# Altium schematic symbol library 研发中心原理图库文件.SchLib: 197 symbols
Pins are listed as number, name and electrical type; pins without a type are passive.

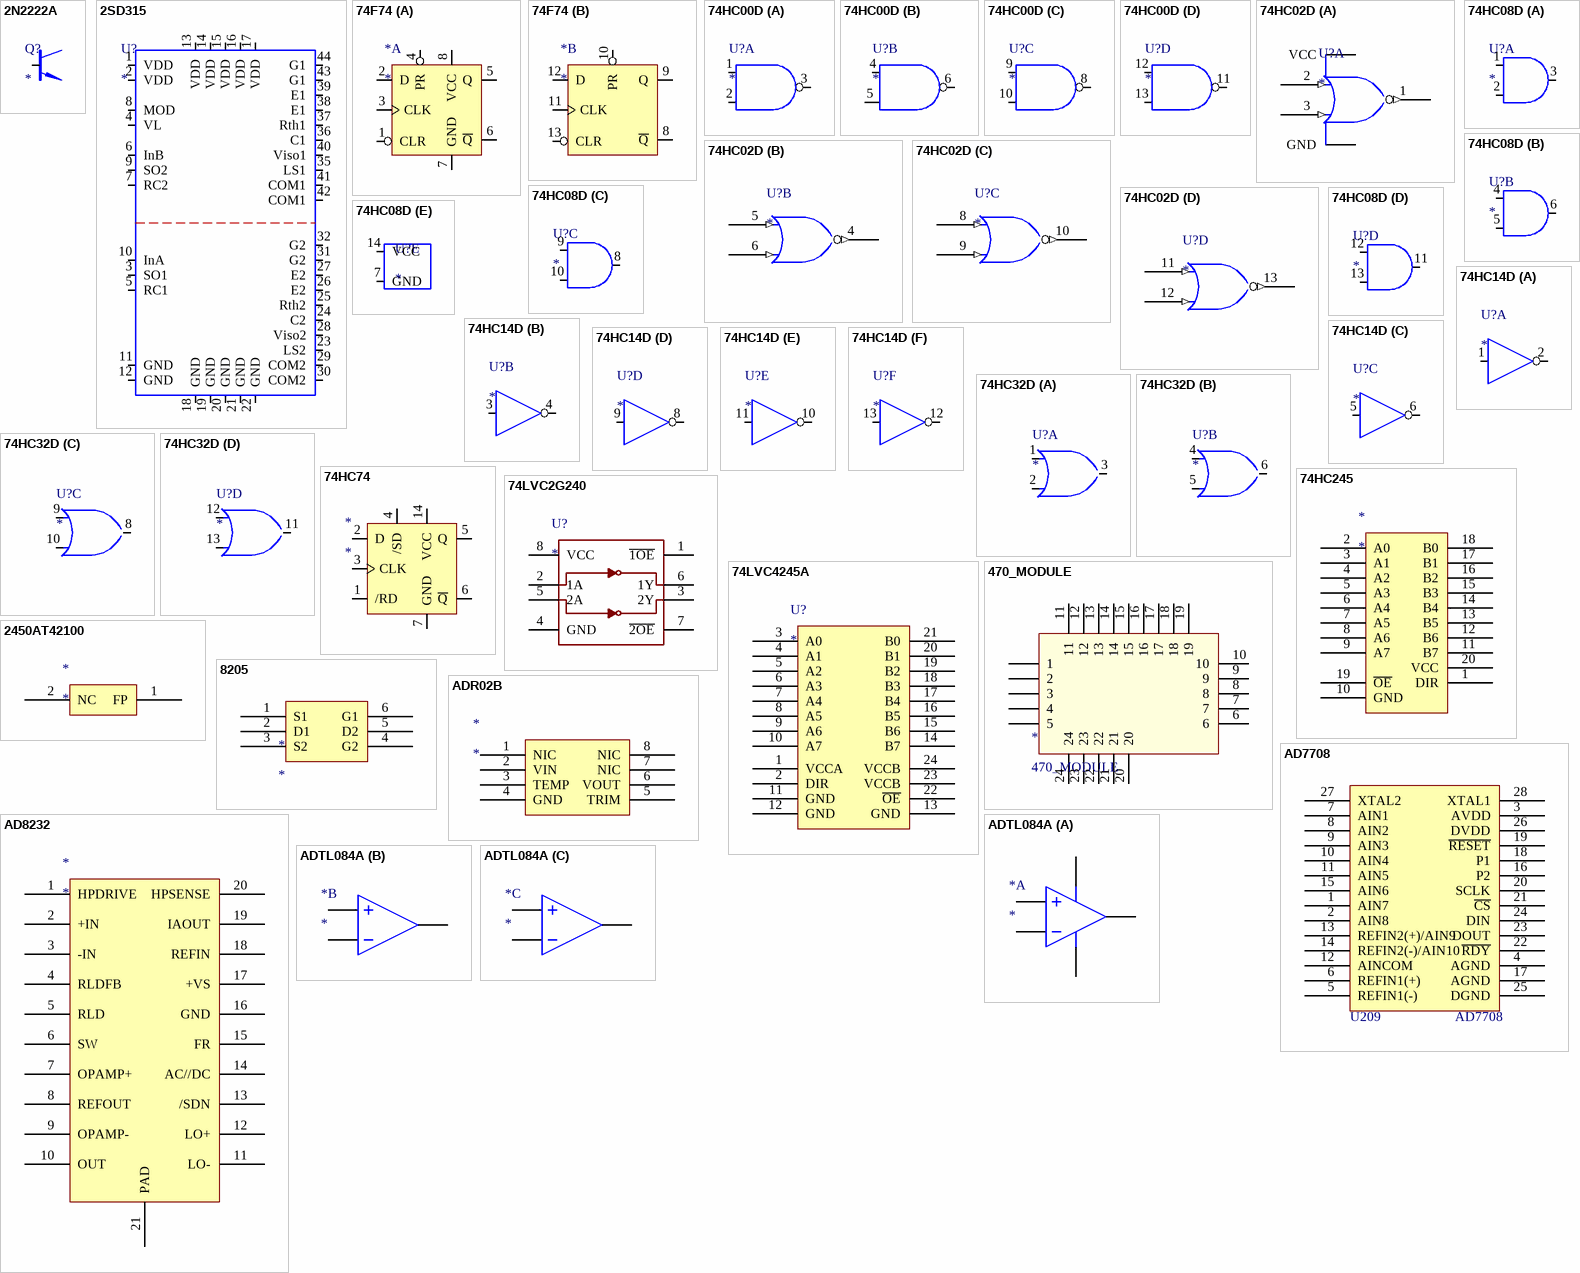
[diagram p0: symbols 2N2222A to ADTL084A]

## 2N2222A
designator Q?
footprint TO-92A
footprint SOT-23
pins: 1, 2, 3

## 2SD315
designator U?
footprint 2SD315
pins: 1 VDD, 2 VDD, 3 SO1, 4 VL, 5 RC1, 6 InB, 7 RC2, 8 MOD, 9 SO2, 10 InA, 11 GND, 12 GND, 13 VDD, 14 VDD, 15 VDD, 16 VDD, 17 VDD, 18 GND, 19 GND, 20 GND, 21 GND, 22 GND, 23 LS2, 24 C2, 25 Rth2, 26 E2, 27 E2, 28 Viso2, 29 COM2, 30 COM2, 31 G2, 32 G2, 35 LS1, 36 C1, 37 Rth1, 38 E1, 39 E1, 40 Viso1, 41 COM1, 42 COM1, 43 G1, 44 G1

## 74F74
designator *
footprint SO14
part A pins: 1 CLR, 2 D, 3 CLK, 4 PR, 5 Q, 6 ~{Q}, 7 GND, 8 VCC
part B pins: 8 ~{Q}, 9 Q, 10 PR, 11 CLK, 12 D, 13 CLR

## 74HC00D
designator U?
2-INPUT NAND GATE
footprint SO14
part A pins: 1 A, 2 B, 3 Y, 7 GND (power) hidden, 14 VCC (power) hidden
part B pins: 4 A, 5 B, 6 Y
part C pins: 8 Y, 9 A, 10 B
part D pins: 11 Y, 12 A, 13 B

## 74HC02D
designator U?
Quad 2-Input NOR Gate
footprint SO14
part A pins: 1 Y (out), 2 A (in), 3 B (in), 7 GND (power), 14 VCC (power)
part B pins: 4 Y (out), 5 A (in), 6 B (in)
part C pins: 8 A (in), 9 B (in), 10 Y (out)
part D pins: 11 A (in), 12 B (in), 13 Y (out)

## 74HC08D
designator U?
2-INPUT AND GATE
footprint SO14
part A pins: 1, 2, 3, 7 GND hidden, 14 VCC hidden
part B pins: 4, 5, 6
part C pins: 8, 9, 10
part D pins: 11, 12, 13
part E pins: 7 GND, 14 VCC

## 74HC14D
designator U?
HEX SCHMITT-TRIGGER INVERTERS
footprint SO14
part A pins: 1, 2, 7 GND (power) hidden, 14 VCC (power) hidden
part B pins: 3, 4
part C pins: 5, 6
part D pins: 8, 9
part E pins: 10, 11
part F pins: 12, 13

## 74HC32D
designator U?
footprint SO14
part A pins: 1 A, 2 B, 3 Y, 7 GND hidden, 14 VCC hidden
part B pins: 4 A, 5 B, 6 Y
part C pins: 8 Y, 9 A, 10 B
part D pins: 11 Y, 12 A, 13 B

## 74HC74
designator *
pins: 1 /RD, 2 D, 3 CLK, 4 /SD, 5 Q, 6 ~{Q}, 7 GND, 14 VCC

## 74HC245
designator *
pins: 1 DIR, 2 A0, 3 A1, 4 A2, 5 A3, 6 A4, 7 A5, 8 A6, 9 A7, 10 GND, 11 B7, 12 B6, 13 B5, 14 B4, 15 B3, 16 B2, 17 B1, 18 B0, 19 ~{OE}, 20 VCC

## 74LVC2G240
designator U?
pins: 1 ~{1OE}, 2 1A, 3 2Y, 4 GND (oe), 5 2A, 6 1Y, 7 ~{2OE}, 8 VCC (oe)

## 74LVC4245A
designator U?
pins: 1 VCCA, 2 DIR, 3 A0, 4 A1, 5 A2, 6 A3, 7 A4, 8 A5, 9 A6, 10 A7, 11 GND, 12 GND, 13 GND, 14 B7, 15 B6, 16 B5, 17 B4, 18 B3, 19 B2, 20 B1, 21 B0, 22 ~{OE}, 23 VCCB, 24 VCCB

## 470_MODULE
designator *
pins: 1, 2, 3, 4, 5, 6, 7, 8, 9, 10, 11, 12, 13, 14, 15, 16, 17, 18, 19, 20, 21, 22, 23, 24

## 2450AT42100
designator *
pins: 1 FP, 2 NC

## 8205
designator *
pins: 1 S1, 2 D1, 3 S2, 4 G2, 5 D2, 6 G1

## AD7708
designator U209
footprint TSSOP28
pins: 1 AIN7, 2 AIN8, 3 AVDD, 4 AGND, 5 REFIN1(-), 6 REFIN1(+), 7 AIN1, 8 AIN2, 9 AIN3, 10 AIN4, 11 AIN5, 12 AINCOM, 13 REFIN2(+)/AIN9, 14 REFIN2(-)/AIN10, 15 AIN6, 16 P2, 17 AGND, 18 P1, 19 ~{RESET}, 20 SCLK, 21 ~{CS}, 22 ~{RDY}, 23 DOUT, 24 DIN, 25 DGND, 26 DVDD, 27 XTAL2, 28 XTAL1

## AD8232
designator *
pins: 1 HPDRIVE, 2 +IN, 3 -IN, 4 RLDFB, 5 RLD, 6 SW, 7 OPAMP+, 8 REFOUT, 9 OPAMP-, 10 OUT, 11 LO-, 12 LO+, 13 /SDN, 14 AC//DC, 15 FR, 16 GND, 17 +VS, 18 REFIN, 19 IAOUT, 20 HPSENSE, 21 PAD

## ADR02B
designator *
pins: 1 NIC, 2 VIN, 3 TEMP, 4 GND, 5 TRIM, 6 VOUT, 7 NIC, 8 NIC

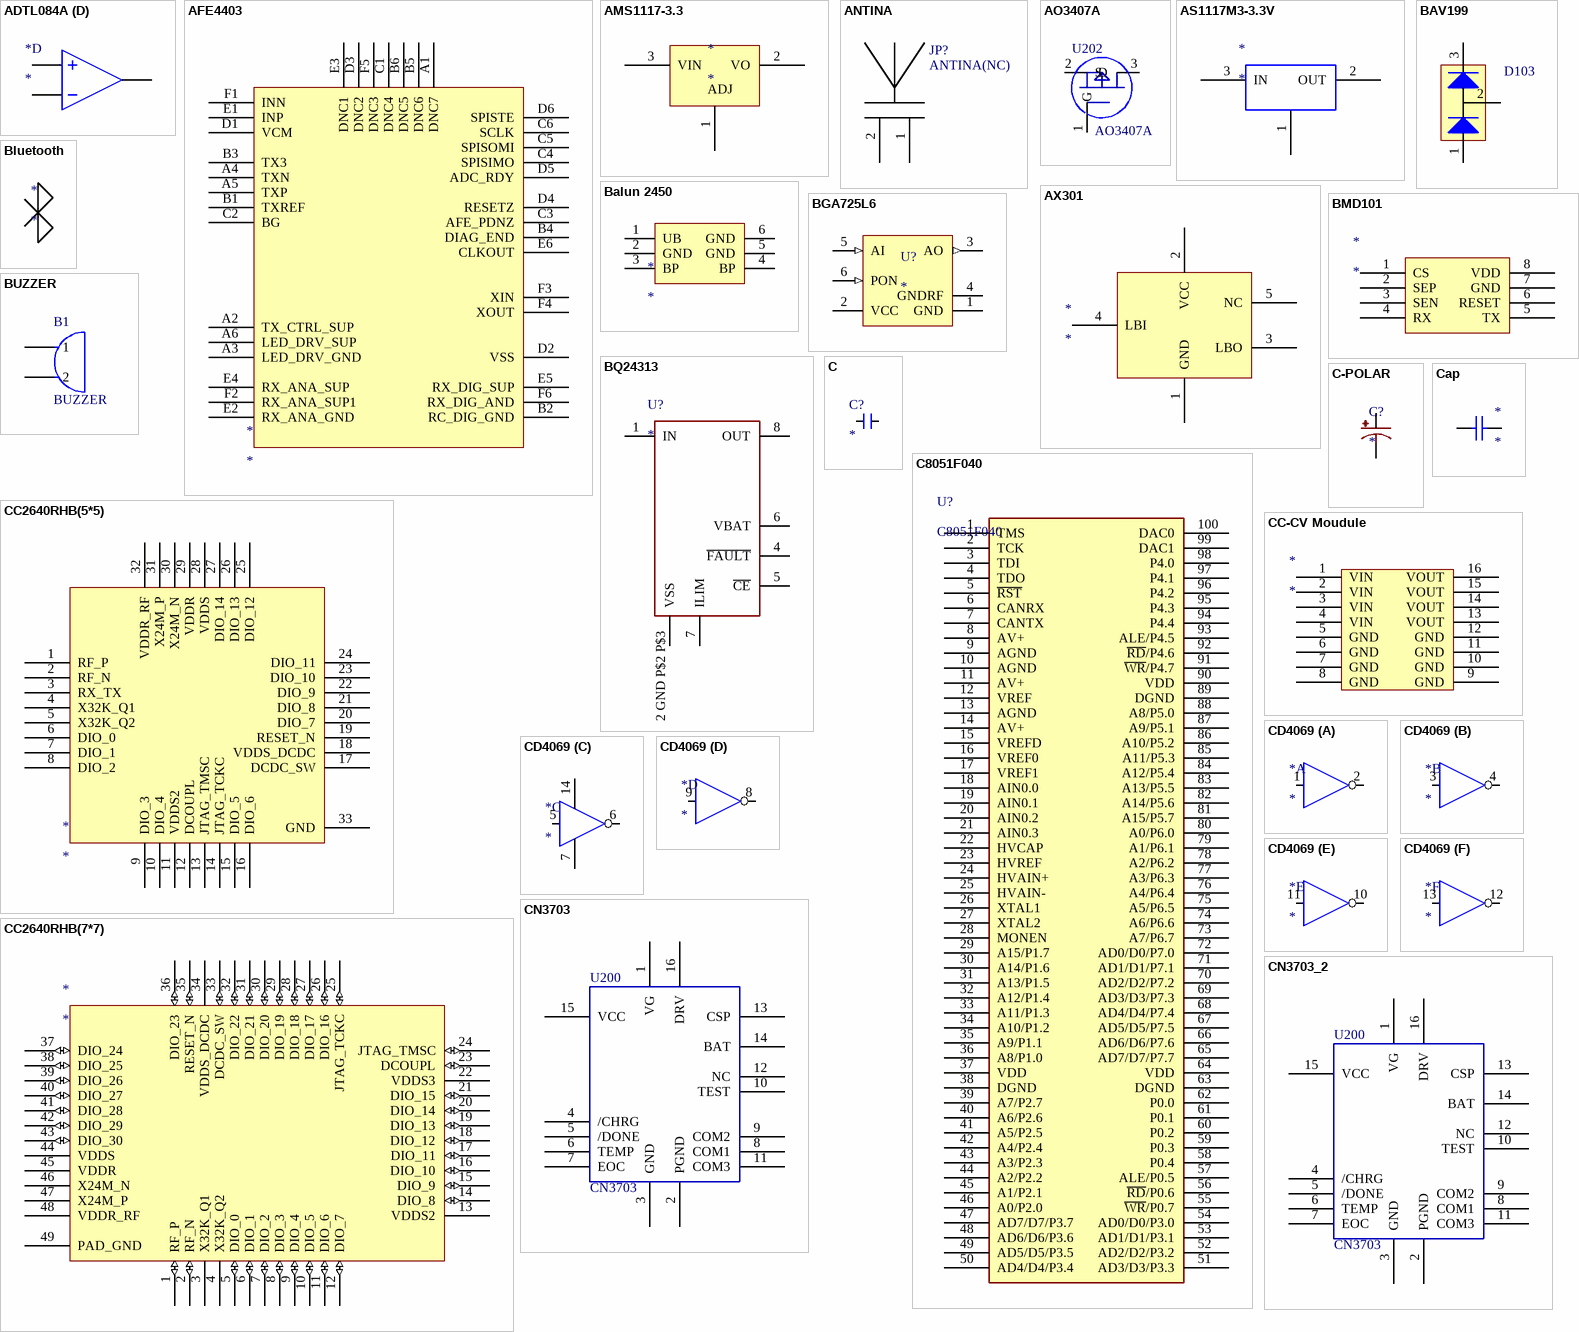
[diagram p1: symbols ADTL084A to CN3703_2]

## ADTL084A
designator *
part A pins: 1 OUT, 2 INA-, 3 INA+, 4 V+, 11 V-
part B pins: 5 INB+, 6 INB-, 7 OUTB
part C pins: 8 OUTC, 9 INC-, 10 INC+
part D pins: 12 IND+, 13 IND-, 14 OUTD

## AFE4403
designator *
pins: A1 DNC7, A2 TX_CTRL_SUP, A3 LED_DRV_GND, A4 TXN, A5 TXP, A6 LED_DRV_SUP, B1 TXREF, B2 RC_DIG_GND, B3 TX3, B4 DIAG_END, B5 DNC6, B6 DNC5, C1 DNC4, C2 BG, C3 AFE_PDNZ, C4 SPISIMO, C5 SPISOMI, C6 SCLK, D1 VCM, D2 VSS, D3 DNC2, D4 RESETZ, D5 ADC_RDY, D6 SPISTE, E1 INP, E2 RX_ANA_GND, E3 DNC1, E4 RX_ANA_SUP, E5 RX_DIG_SUP, E6 CLKOUT, F1 INN, F2 RX_ANA_SUP1, F3 XIN, F4 XOUT, F5 DNC3, F6 RX_DIG_AND

## AMS1117-3.3
designator *
footprint SOT223
pins: 1 GND/ADJ, 2 VO, 3 VIN
text: ADJ

## ANTINA
designator JP?, comment ANTINA(NC)
footprint ANTINA
pins: 1, 2

## AO3407A
designator U202
footprint sot-23
pins: 1 G, 2 S, 3 D

## AS1117M3-3.3V
designator *
5V-3.3V
footprint SOT223
pins: 1 COM, 2 OUT, 3 IN

## AX301
designator *
pins: 1 GND, 2 VCC, 3 LBO, 4 LBI, 5 NC

## Balun 2450
designator *
pins: 1 UB, 2 GND, 3 BP, 4 BP, 5 GND, 6 GND

## BAV199
designator D103  (value not drawn)
footprint SOT23-NPN
pins: 1, 2, 3

## BGA725L6
designator U?
pins: 1 GND (power) "General ground", 2 VCC (power) "DC supply", 3 AO (out) "LNA output", 4 GNDRF (power) "LNA RF ground", 5 AI (in) "LNA input", 6 PON (in) "Power on control"

## Bluetooth
designator *

## BMD101
designator *
pins: 1 CS, 2 SEP, 3 SEN, 4 RX, 5 TX, 6 RESET, 7 GND, 8 VDD

## BQ24313
designator U?
pins: 1 IN, 2 GND P$2 P$3 VSS, 4 ~{FAULT}, 5 ~{CE}, 6 VBAT, 7 ILIM, 8 OUT

## BUZZER
designator B1
footprint BEEP
pins: 1, 2

## C
designator C?
footprint 0805
footprint RAD0.2
pins: 1, 2

## C8051F040
designator U?
footprint TQ100
pins: 1 TMS, 2 TCK, 3 TDI, 4 TDO, 5 ~{RST}, 6 CANRX, 7 CANTX, 8 AV+, 9 AGND, 10 AGND, 11 AV+, 12 VREF, 13 AGND, 14 AV+, 15 VREFD, 16 VREF0, 17 VREF1, 18 AIN0.0, 19 AIN0.1, 20 AIN0.2, 21 AIN0.3, 22 HVCAP, 23 HVREF, 24 HVAIN+, 25 HVAIN-, 26 XTAL1, 27 XTAL2, 28 MONEN, 29 A15/P1.7, 30 A14/P1.6, 31 A13/P1.5, 32 A12/P1.4, 33 A11/P1.3, 34 A10/P1.2, 35 A9/P1.1, 36 A8/P1.0, 37 VDD, 38 DGND, 39 A7/P2.7, 40 A6/P2.6, 41 A5/P2.5, 42 A4/P2.4, 43 A3/P2.3, 44 A2/P2.2, 45 A1/P2.1, 46 A0/P2.0, 47 AD7/D7/P3.7, 48 AD6/D6/P3.6, 49 AD5/D5/P3.5, 50 AD4/D4/P3.4, 51 AD3/D3/P3.3, 52 AD2/D2/P3.2, 53 AD1/D1/P3.1, 54 AD0/D0/P3.0, 55 ~{WR}/P0.7, 56 ~{RD}/P0.6, 57 ALE/P0.5, 58 P0.4, 59 P0.3, 60 P0.2, 61 P0.1, 62 P0.0, 63 DGND, 64 VDD, 65 AD7/D7/P7.7, 66 AD6/D6/P7.6, 67 AD5/D5/P7.5, 68 AD4/D4/P7.4, 69 AD3/D3/P7.3, 70 AD2/D2/P7.2, 71 AD1/D1/P7.1, 72 AD0/D0/P7.0, 73 A7/P6.7, 74 A6/P6.6, 75 A5/P6.5, 76 A4/P6.4, 77 A3/P6.3, 78 A2/P6.2, 79 A1/P6.1, 80 A0/P6.0, 81 A15/P5.7, 82 A14/P5.6, 83 A13/P5.5, 84 A12/P5.4, 85 A11/P5.3, 86 A10/P5.2, 87 A9/P5.1, 88 A8/P5.0, 89 DGND, 90 VDD, 91 ~{WR}/P4.7, 92 ~{RD}/P4.6, 93 ALE/P4.5, 94 P4.4, 95 P4.3, 96 P4.2, 97 P4.1, 98 P4.0, 99 DAC1, 100 DAC0

## C-POLAR
designator C?
pins: 1, 2

## Cap
designator *
footprint C0805
pins: 1, 2

## CC2640RHB(5*5)
designator *
pins: 1 RF_P, 2 RF_N, 3 RX_TX, 4 X32K_Q1, 5 X32K_Q2, 6 DIO_0, 7 DIO_1, 8 DIO_2, 9 DIO_3, 10 DIO_4, 11 VDDS2, 12 DCOUPL, 13 JTAG_TMSC, 14 JTAG_TCKC, 15 DIO_5, 16 DIO_6, 17 DCDC_SW, 18 VDDS_DCDC, 19 RESET_N, 20 DIO_7, 21 DIO_8, 22 DIO_9, 23 DIO_10, 24 DIO_11, 25 DIO_12, 26 DIO_13, 27 DIO_14, 28 VDDS, 29 VDDR, 30 X24M_N, 31 X24M_P, 32 VDDR_RF, 33 GND

## CC2640RHB(7*7)
designator *
pins: 1 RF_P (io), 2 RF_N (io), 3 X32K_Q1 (power), 4 X32K_Q2 (power), 5 DIO_0 (io), 6 DIO_1 (io), 7 DIO_2 (io), 8 DIO_3 (io), 9 DIO_4 (io), 10 DIO_5 (io), 11 DIO_6 (io), 12 DIO_7 (io), 13 VDDS2 (power), 14 DIO_8 (io), 15 DIO_9 (io), 16 DIO_10 (io), 17 DIO_11 (io), 18 DIO_12 (io), 19 DIO_13 (io), 20 DIO_14 (io), 21 DIO_15 (io), 22 VDDS3 (power), 23 DCOUPL (io), 24 JTAG_TMSC (io), 25 JTAG_TCKC (io), 26 DIO_16 (io), 27 DIO_17 (io), 28 DIO_18 (io), 29 DIO_19 (io), 30 DIO_20 (io), 31 DIO_21 (io), 32 DIO_22 (io), 33 DCDC_SW (io), 34 VDDS_DCDC (power), 35 RESET_N (io), 36 DIO_23 (io), 37 DIO_24 (io), 38 DIO_25 (io), 39 DIO_26 (io), 40 DIO_27 (io), 41 DIO_28 (io), 42 DIO_29 (io), 43 DIO_30 (io), 44 VDDS (power), 45 VDDR (power), 46 X24M_N (power), 47 X24M_P (power), 48 VDDR_RF (power), 49 PAD_GND (power)

## CC-CV Moudule
designator *
pins: 1 VIN, 2 VIN, 3 VIN, 4 VIN, 5 GND, 6 GND, 7 GND, 8 GND, 9 GND, 10 GND, 11 GND, 12 GND, 13 VOUT, 14 VOUT, 15 VOUT, 16 VOUT

## CD4069
designator *
part A pins: 1, 2
part B pins: 3, 4
part C pins: 5, 6, 7 GND, 14 VCC
part D pins: 8, 9
part E pins: 10, 11
part F pins: 12, 13

## CN3703
designator U200
footprint TSSOP16
pins: 1 VG, 2 PGND, 3 GND, 4 /CHRG, 5 /DONE, 6 TEMP, 7 EOC, 8 COM1, 9 COM2, 10 TEST, 11 COM3, 12 NC, 13 CSP, 14 BAT, 15 VCC, 16 DRV

## CN3703_2
designator U200, comment CN3703
footprint TSSOP16
pins: 1 VG, 2 PGND, 3 GND, 4 /CHRG, 5 /DONE, 6 TEMP, 7 EOC, 8 COM1, 9 COM2, 10 TEST, 11 COM3, 12 NC, 13 CSP, 14 BAT, 15 VCC, 16 DRV

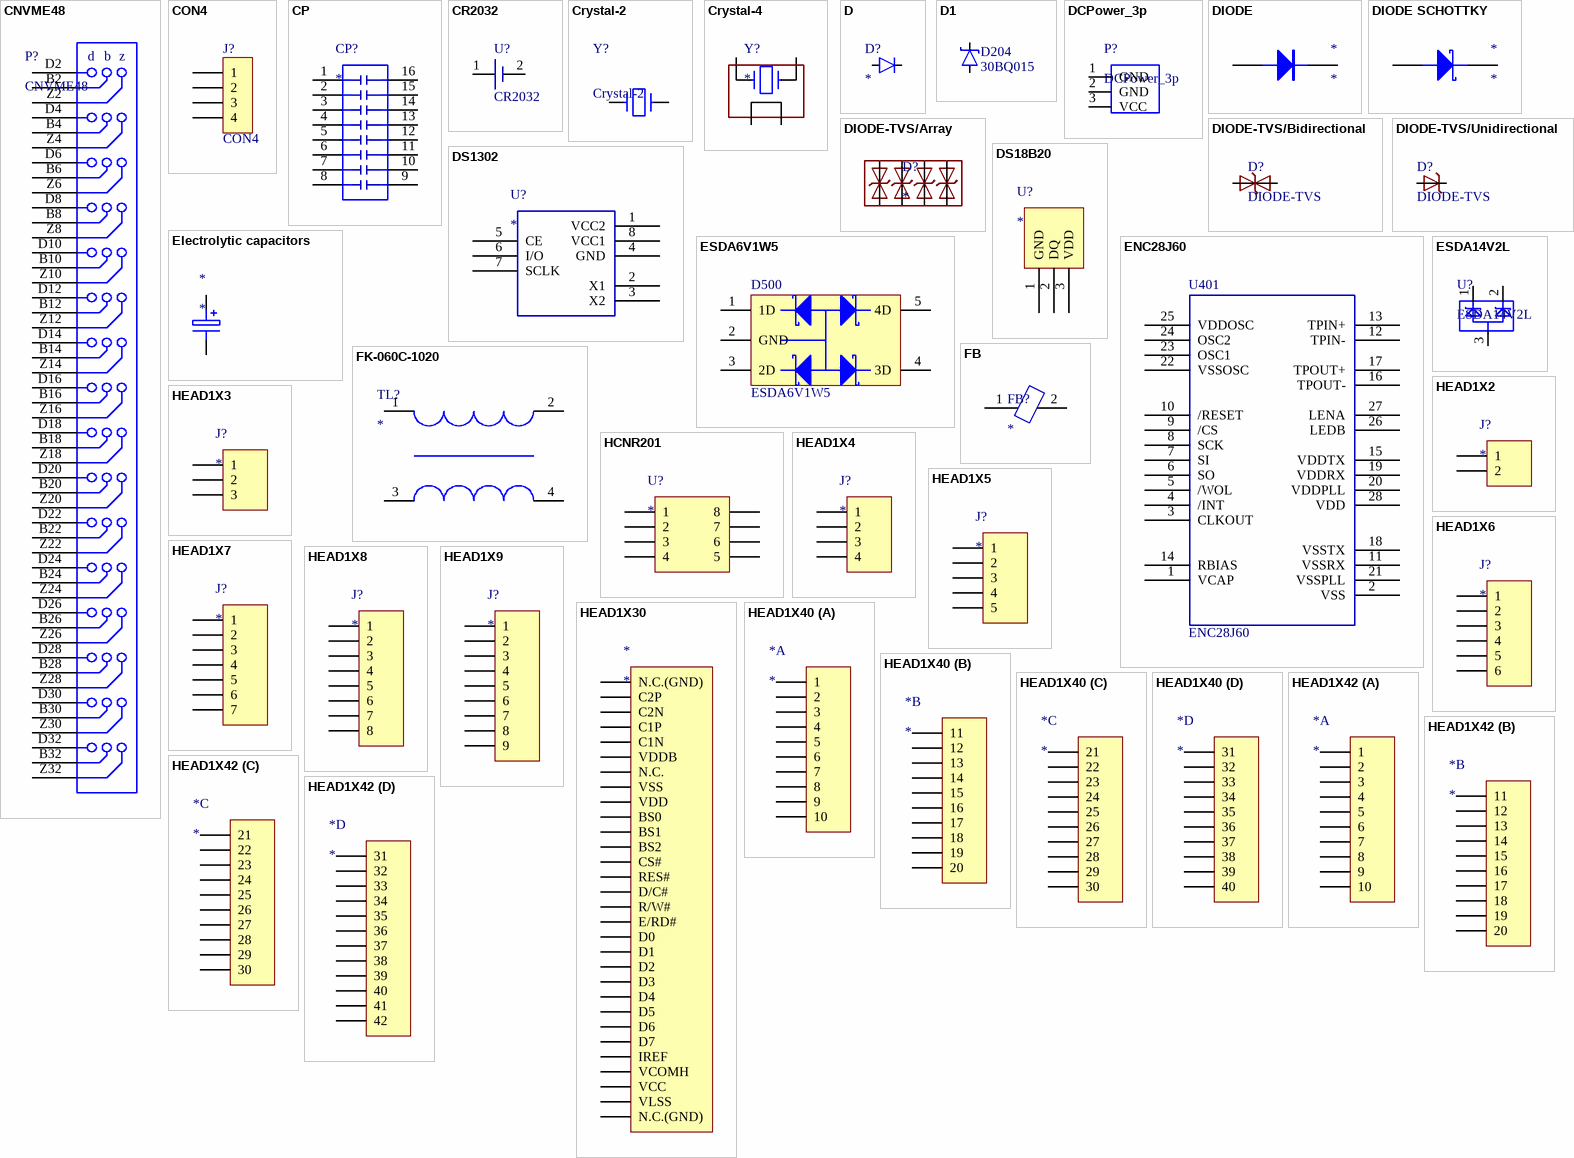
[diagram p2: symbols CNVME48 to HEAD1X42]

## CNVME48
designator P?
9062486901
footprint CNVME48
pins: B2 2, B4 4, B6 6, B8 8, B10 10, B12 12, B14 14, B16 16, B18 18, B20 20, B22 22, B24 24, B26 26, B28 28, B30 30, B32 32, D2 2, D4 4, D6 6, D8 8, D10 10, D12 12, D14 14, D16 16, D18 18, D20 20, D22 22, D24 24, D26 26, D28 28, D30 30, D32 32, Z2 2, Z4 4, Z6 6, Z8 8, Z10 10, Z12 12, Z14 14, Z16 16, Z18 18, Z20 20, Z22 22, Z24 24, Z26 26, Z28 28, Z30 30, Z32 32
text: d; b; z

## CON4
designator J?
footprint WL-JP4
pins: 1, 2, 3, 4

## CP
designator CP?
pins: 1, 2, 3, 4, 5, 6, 7, 8, 9, 10, 11, 12, 13, 14, 15, 16

## CR2032
designator U?
footprint CR2032-2
pins: 1 +, 2 -

## Crystal-2
designator Y?
footprint 32768DIP
pins: 1, 2

## Crystal-4
designator Y?
pins: 1, 2, 3, 4

## D
designator D?
footprint 1N4007
footprint 1206D
pins: A, K

## D1
designator D204, comment 30BQ015
footprint do214ab
pins: 1, 2

## DCPower_3p
designator P?
footprint 3PINPOWER
pins: 1 GND, 2 GND, 3 VCC

## DIODE
designator *
footprint 1N4007SMD
pins: 1, 2

## DIODE SCHOTTKY
designator *
footprint 1N5825
pins: 1, 2

## DIODE-TVS/Array
designator D?
pins: 1, 2, 3, 4, 5, 6, 7, 8

## DIODE-TVS/Bidirectional
designator D?, comment DIODE-TVS
pins: 1, 2

## DIODE-TVS/Unidirectional
designator D?, comment DIODE-TVS
pins: A, C

## DS18B20
designator U?
pins: 1 GND, 2 DQ, 3 VDD

## DS1302
designator U?
footprint SO8
pins: 1 VCC2, 2 X1, 3 X2, 4 GND, 5 CE, 6 I/O, 7 SCLK, 8 VCC1

## Electrolytic capacitors
designator *
footprint E10
footprint RB9/CAP8
footprint C7343-31
pins: 1, 2

## ENC28J60
designator U401
footprint SSOP-28
pins: 1 VCAP, 2 VSS, 3 CLKOUT, 4 /INT, 5 /WOL, 6 SO, 7 SI, 8 SCK, 9 /CS, 10 /RESET, 11 VSSRX, 12 TPIN-, 13 TPIN+, 14 RBIAS, 15 VDDTX, 16 TPOUT-, 17 TPOUT+, 18 VSSTX, 19 VDDRX, 20 VDDPLL, 21 VSSPLL, 22 VSSOSC, 23 OSC1, 24 OSC2, 25 VDDOSC, 26 LEDB, 27 LENA, 28 VDD

## ESDA6V1W5
designator D500
footprint SOT323-5L
pins: 1 1D, 2 GND, 3 2D, 4 3D, 5 4D

## ESDA14V2L
designator U?
footprint SOT23-PNP
pins: 1, 2, 3

## FB
designator FB?
pins: 1, 2

## FK-060C-1020
designator TL?
footprint FK-060C
pins: 1 31, 2 28, 3 30, 4 29

## HCNR201
designator U?
footprint SIP9
pins: 1, 2, 3, 4, 5, 6, 7, 8

## HEAD1X2
designator J?
footprint SIP2
pins: 1, 2

## HEAD1X3
designator J?
footprint SIP3
pins: 1, 2, 3

## HEAD1X4
designator J?
footprint SIP4
pins: 1, 2, 3, 4

## HEAD1X5
designator J?
footprint SIP5
pins: 1, 2, 3, 4, 5

## HEAD1X6
designator J?
footprint SIP6
pins: 1, 2, 3, 4, 5, 6

## HEAD1X7
designator J?
footprint SIP7
pins: 1, 2, 3, 4, 5, 6, 7

## HEAD1X8
designator J?
footprint SIP8
pins: 1, 2, 3, 4, 5, 6, 7, 8

## HEAD1X9
designator J?
footprint SIP9
pins: 1, 2, 3, 4, 5, 6, 7, 8, 9

## HEAD1X30
designator *
pins: 1 N.C.(GND), 2 C2P, 3 C2N, 4 C1P, 5 C1N, 6 VDDB, 7 N.C., 8 VSS, 9 VDD, 10 BS0, 11 BS1, 12 BS2, 13 CS#, 14 RES#, 15 D/C#, 16 R/W#, 17 E/RD#, 18 D0, 19 D1, 20 D2, 21 D3, 22 D4, 23 D5, 24 D6, 25 D7, 26 IREF, 27 VCOMH, 28 VCC, 29 VLSS, 30 N.C.(GND)

## HEAD1X40
designator *
part A pins: 1, 2, 3, 4, 5, 6, 7, 8, 9, 10
part B pins: 11, 12, 13, 14, 15, 16, 17, 18, 19, 20
part C pins: 21, 22, 23, 24, 25, 26, 27, 28, 29, 30
part D pins: 31, 32, 33, 34, 35, 36, 37, 38, 39, 40

## HEAD1X42
designator *
part A pins: 1, 2, 3, 4, 5, 6, 7, 8, 9, 10
part B pins: 11, 12, 13, 14, 15, 16, 17, 18, 19, 20
part C pins: 21, 22, 23, 24, 25, 26, 27, 28, 29, 30
part D pins: 31, 32, 33, 34, 35, 36, 37, 38, 39, 40, 41, 42

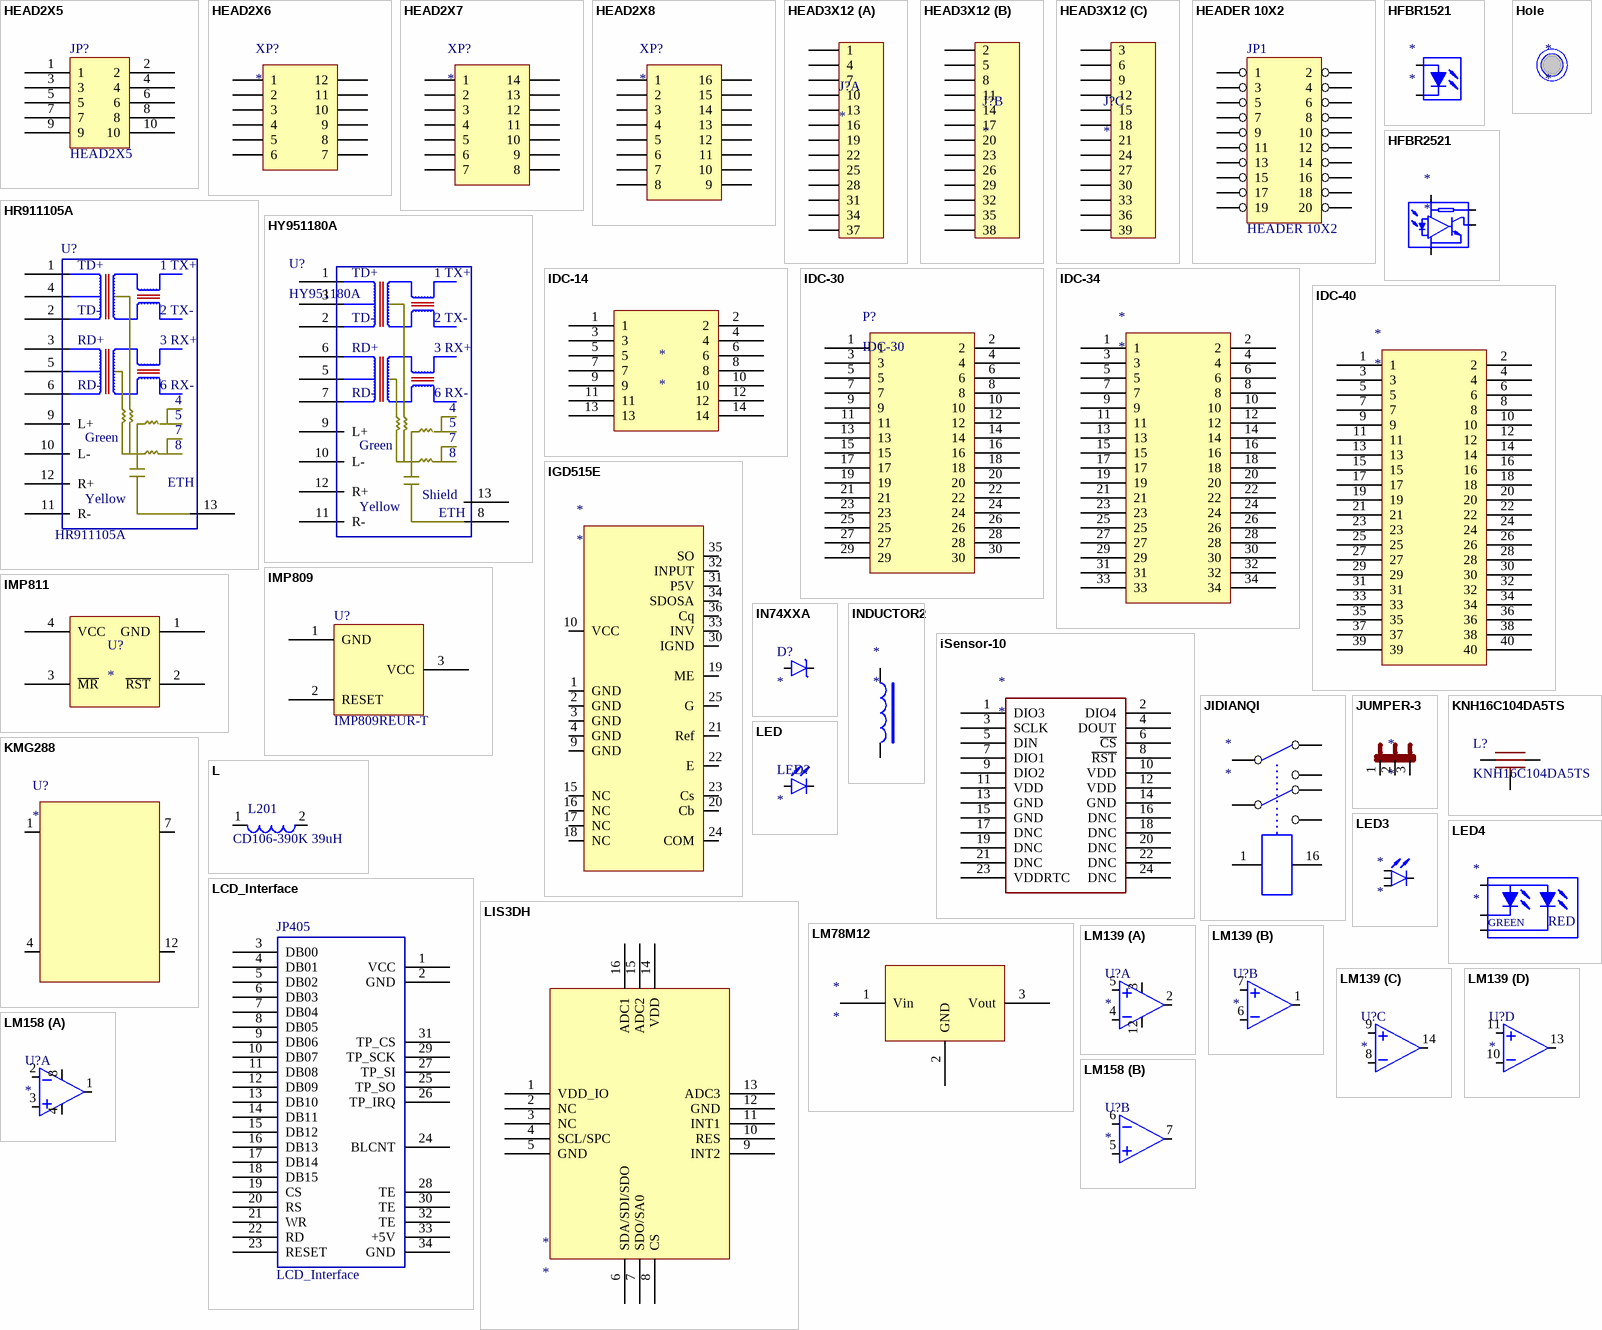
[diagram p3: symbols HEAD2X5 to LM158]

## HEAD2X5
designator JP?
footprint IDC10
pins: 1, 2, 3, 4, 5, 6, 7, 8, 9, 10

## HEAD2X6
designator XP?
footprint SIP9
pins: 1, 2, 3, 4, 5, 6, 7, 8, 9, 10, 11, 12

## HEAD2X7
designator XP?
footprint SIP9
pins: 1, 2, 3, 4, 5, 6, 7, 8, 9, 10, 11, 12, 13, 14

## HEAD2X8
designator XP?
footprint IDC16
pins: 1, 2, 3, 4, 5, 6, 7, 8, 9, 10, 11, 12, 13, 14, 15, 16

## HEAD3X12
designator J?
part A pins: 1, 4, 7, 10, 13, 16, 19, 22, 25, 28, 31, 34, 37
part B pins: 2, 5, 8, 11, 14, 17, 20, 23, 26, 29, 32, 35, 38
part C pins: 3, 6, 9, 12, 15, 18, 21, 24, 27, 30, 33, 36, 39

## HEADER 10X2
designator JP1
footprint IDC20-D
pins: 1, 2, 3, 4, 5, 6, 7, 8, 9, 10, 11, 12, 13, 14, 15, 16, 17, 18, 19, 20

## HFBR1521
designator *
footprint HFBR
pins: 1, 2

## HFBR2521
designator *
footprint HFBR
pins: 1, 2, 3, 4

## Hole
designator *

## HR911105A
designator U?
footprint HR911105A
pins: 1, 2, 3, 4, 5, 6, 9 L+, 10 L-, 11 R-, 12 R+, 13
text: TD+; 1 TX+; TD-; 2 TX-; RD+; 3 RX+; RD-; 6 RX-; 7; Green; 8; ETH; Yellow

## HY951180A
designator U?
footprint HR951180A
pins: 1, 2, 3, 5, 6, 7, 8, 9 L+, 10 L-, 11 R-, 12 R+, 13
text: TD+; 1 TX+; TD-; 2 TX-; RD+; 3 RX+; RD-; 6 RX-; 4; Green; Shield; Yellow; ETH

## IDC-14
designator *
pins: 1, 2, 3, 4, 5, 6, 7, 8, 9, 10, 11, 12, 13, 14

## IDC-30
designator P?
footprint IDC30-D
pins: 1, 2, 3, 4, 5, 6, 7, 8, 9, 10, 11, 12, 13, 14, 15, 16, 17, 18, 19, 20, 21, 22, 23, 24, 25, 26, 27, 28, 29, 30

## IDC-34
designator *
pins: 1, 2, 3, 4, 5, 6, 7, 8, 9, 10, 11, 12, 13, 14, 15, 16, 17, 18, 19, 20, 21, 22, 23, 24, 25, 26, 27, 28, 29, 30, 31, 32, 33, 34

## IDC-40
designator *
pins: 1, 2, 3, 4, 5, 6, 7, 8, 9, 10, 11, 12, 13, 14, 15, 16, 17, 18, 19, 20, 21, 22, 23, 24, 25, 26, 27, 28, 29, 30, 31, 32, 33, 34, 35, 36, 37, 38, 39, 40

## IGD515E
designator *
footprint IGD515
pins: 1 GND, 2 GND, 3 GND, 4 GND, 9 GND, 10 VCC, 15 NC, 16 NC, 17 NC, 18 NC, 19 ME, 20 Cb, 21 Ref, 22 E, 23 Cs, 24 COM, 25 G, 30 IGND, 31 P5V, 32 INPUT, 33 INV, 34 SDOSA, 35 SO, 36 Cq

## IMP809
designator U?, comment IMP809REUR-T
footprint SOT23-PNP
pins: 1 GND, 2 RESET, 3 VCC

## IMP811
designator U?
pins: 1 GND, 2 ~{RST}, 3 ~{MR}, 4 VCC

## IN74XXA
designator D?
footprint DIODE0.4
footprint 1N4007
pins: A, K

## INDUCTOR2
designator *
footprint SMD-3A
pins: 1, 2

## iSensor-10
designator *
pins: 1 DIO3, 2 DIO4, 3 SCLK, 4 DOUT, 5 DIN, 6 ~{CS}, 7 DIO1, 8 ~{RST}, 9 DIO2, 10 VDD, 11 VDD, 12 VDD, 13 GND, 14 GND, 15 GND, 16 DNC, 17 DNC, 18 DNC, 19 DNC, 20 DNC, 21 DNC, 22 DNC, 23 VDDRTC, 24 DNC

## JIDIANQI
designator *
footprint JIDIANQI
pins: 1, 4, 6, 8, 9, 11, 13, 16

## JUMPER-3
designator *
pins: 1, 2, 3

## KMG288
designator U?
footprint KMG288
pins: 1, 4, 7, 12

## KNH16C104DA5TS
designator L?
pins: P$1, P$2, P$3 P$4 P$5 P$3

## L
designator L201, comment CD106-390K 39uH
footprint CD106
pins: 1 31, 2 28

## LCD_Interface
designator JP405
footprint IDC34-d
pins: 1 VCC, 2 GND, 3 DB00, 4 DB01, 5 DB02, 6 DB03, 7 DB04, 8 DB05, 9 DB06, 10 DB07, 11 DB08, 12 DB09, 13 DB10, 14 DB11, 15 DB12, 16 DB13, 17 DB14, 18 DB15, 19 CS, 20 RS, 21 WR, 22 RD, 23 RESET, 24 BLCNT, 25 TP_SO, 26 TP_IRQ, 27 TP_SI, 28 TE, 29 TP_SCK, 30 TE, 31 TP_CS, 32 TE, 33 +5V, 34 GND

## LED
designator LED?
footprint 1206D
footprint LED
pins: 1, 2

## LED3
designator *
pins: A1, A2, A3, K1

## LED4
designator *
pins: 1, 2, 3
text: GREEN; RED

## LIS3DH
designator *
pins: 1 VDD_IO, 2 NC, 3 NC, 4 SCL/SPC, 5 GND, 6 SDA/SDI/SDO, 7 SDO/SA0, 8 CS, 9 INT2, 10 RES, 11 INT1, 12 GND, 13 ADC3, 14 VDD, 15 ADC2, 16 ADC1

## LM78M12
designator *
pins: 1 Vin, 2 GND, 3 Vout

## LM139
designator U?
footprint SO14
part A pins: 2, 3 +15V, 4, 5, 12 -15V
part B pins: 1, 6, 7
part C pins: 8, 9, 14
part D pins: 10, 11, 13

## LM158
designator U?
footprint SO8
part A pins: 1, 2, 3, 4 -15V, 8 +15V
part B pins: 5, 6, 7

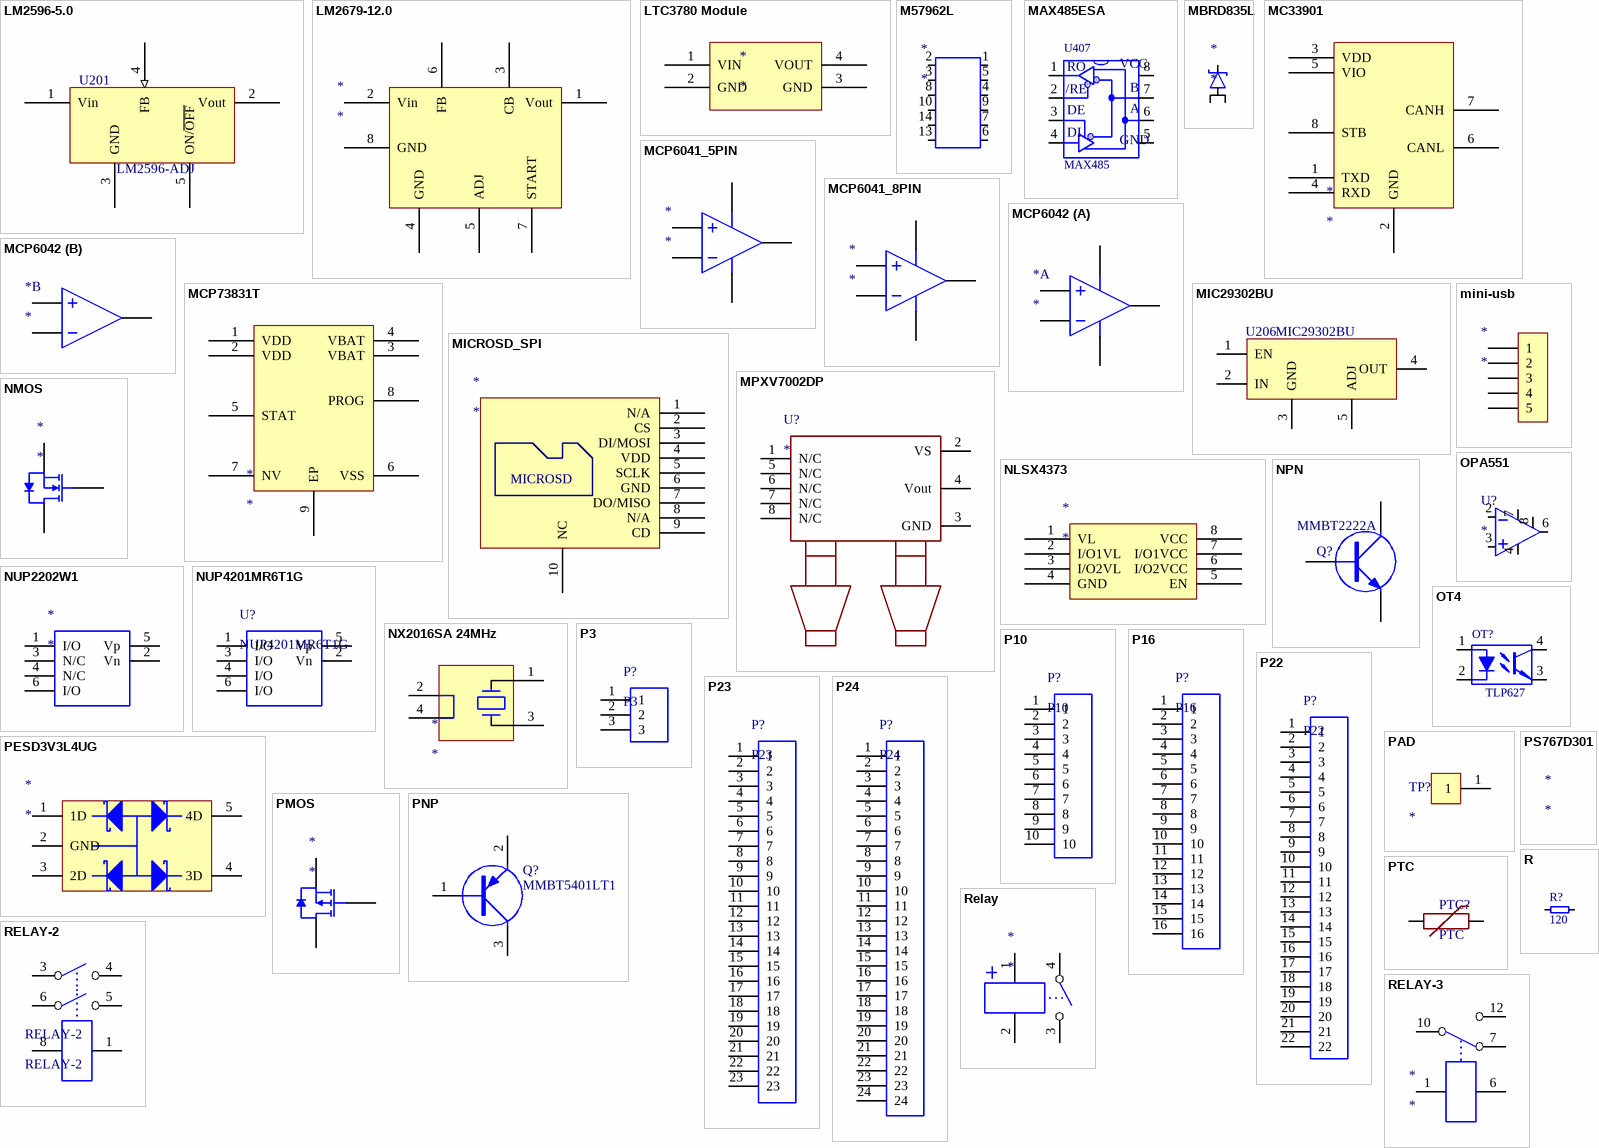
[diagram p4: symbols LM2596-5.0 to RELAY-3]

## LM2596-5.0
designator U201, comment LM2596-ADJ
footprint TO-263-5
pins: 1 Vin (power), 2 Vout (power), 3 GND (power), 4 FB (in), 5 ON/~{OFF}

## LM2679-12.0
designator *
pins: 1 Vout (power), 2 Vin (power), 3 CB (power), 4 GND (power), 5 ADJ, 6 FB (power), 7 START (power), 8 GND (power)

## LTC3780 Module
designator *
pins: 1 VIN, 2 GND, 3 GND, 4 VOUT

## M57962L
designator *
footprint M57962L
pins: 1, 2, 3, 4, 5, 6, 7, 8, 9, 10, 13, 14

## MAX485ESA
designator U407, comment MAX485
footprint SO8
footprint SO-8
pins: 1, 2, 3, 4, 5, 6, 7, 8
text: RO; VCC; /RE; B; DE; A; DI; GND

## MBRD835L
designator *
pins: 1, 2, 3

## MC33901
designator *
pins: 1 TXD, 2 GND, 3 VDD, 4 RXD, 5 VIO, 6 CANL, 7 CANH, 8 STB

## MCP6041_5PIN
designator *
pins: 1 OUT, 2 V-, 3 IN+, 4 IN-, 5 V+

## MCP6041_8PIN
designator *
pins: 2 IN-, 3 IN+, 4 V-, 6 OUT, 7 V+

## MCP6042
designator *
part A pins: 1 OUT, 2 INA-, 3 INA+, 4 V-, 8 V+
part B pins: 5 INB+, 6 INB-, 7 OUTB

## MCP73831T
designator *
pins: 1 VDD, 2 VDD, 3 VBAT, 4 VBAT, 5 STAT, 6 VSS, 7 NV, 8 PROG, 9 EP

## MIC29302BU
designator U206
footprint TO-263-5
pins: 1 EN, 2 IN, 3 GND, 4 OUT, 5 ADJ

## MICROSD_SPI
designator *
pins: 1 N/A, 2 CS, 3 DI/MOSI, 4 VDD, 5 SCLK, 6 GND, 7 DO/MISO, 8 N/A, 9 CD, 10 NC
text: MICROSD

## mini-usb
designator *
footprint mini-usb
pins: 1, 2, 3, 4, 5

## MPXV7002DP
designator U?
pins: 1 N/C, 2 VS, 3 GND, 4 Vout, 5 N/C, 6 N/C, 7 N/C, 8 N/C

## NLSX4373
designator *
pins: 1 VL, 2 I/O1VL, 3 I/O2VL, 4 GND, 5 EN, 6 I/O2VCC, 7 I/O1VCC, 8 VCC

## NMOS
designator *
pins: 1 G, 2 D, 3 S

## NPN
designator Q?, comment MMBT2222A
NPN Transistor
footprint SOT23-NPN
pins: 1 B, 2 C, 3 E

## NUP2202W1
designator *
pins: 1 I/O, 2 Vn, 3 N/C, 4 N/C, 5 Vp, 6 I/O

## NUP4201MR6T1G
designator U?
footprint TSOP-6
pins: 1 I/O, 2 Vn, 3 I/O, 4 I/O, 5 Vp, 6 I/O

## NX2016SA 24MHz
designator *
pins: 1, 2, 3, 4

## OPA551
designator U?
footprint DIP8
pins: 2, 3, 4 -15V, 6, 7 +15V, 8 Flag

## OT4
designator OT?, comment TLP627
footprint TLP627-1
pins: 1, 2, 3, 4

## P3
designator P?
footprint P3 -3.81
pins: 1, 2, 3

## P10
designator P?
footprint P16-3.81 (Footprint not found)
pins: 1, 2, 3, 4, 5, 6, 7, 8, 9, 10

## P16
designator P?
footprint P16-3.81 (Footprint not found)
pins: 1, 2, 3, 4, 5, 6, 7, 8, 9, 10, 11, 12, 13, 14, 15, 16

## P22
designator P?
footprint P22-3.81
pins: 1, 2, 3, 4, 5, 6, 7, 8, 9, 10, 11, 12, 13, 14, 15, 16, 17, 18, 19, 20, 21, 22

## P23
designator P?
footprint P23-3.81 (Footprint not found)
pins: 1, 2, 3, 4, 5, 6, 7, 8, 9, 10, 11, 12, 13, 14, 15, 16, 17, 18, 19, 20, 21, 22, 23

## P24
designator P?
footprint P24-3.81
pins: 1, 2, 3, 4, 5, 6, 7, 8, 9, 10, 11, 12, 13, 14, 15, 16, 17, 18, 19, 20, 21, 22, 23, 24

## PAD
designator TP?
pins: 1

## PESD3V3L4UG
designator *
pins: 1 1D, 2 GND, 3 2D, 4 3D, 5 4D

## PMOS
designator *
pins: 1 G, 2 D, 3 S

## PNP
designator Q?, comment MMBT5401LT1
PNP Transistor
footprint SOT23-PNP
pins: 1 B, 2 E, 3 C

## PS767D301
designator *

## PTC
designator PTC?
pins: 1, 2

## R
designator R?, comment 120
footprint AXIAL0.4
footprint AXIAL0.3
footprint AXIAL0.5
footprint AXIAL0.6
footprint 0805
pins: 1, 2

## Relay
designator *
footprint RELAY
pins: 1, 2, 3, 4

## RELAY-2
designator RELAY-2
pins: 1, 3, 4, 5, 6, 8

## RELAY-3
designator *
pins: 1, 6, 7, 10, 12

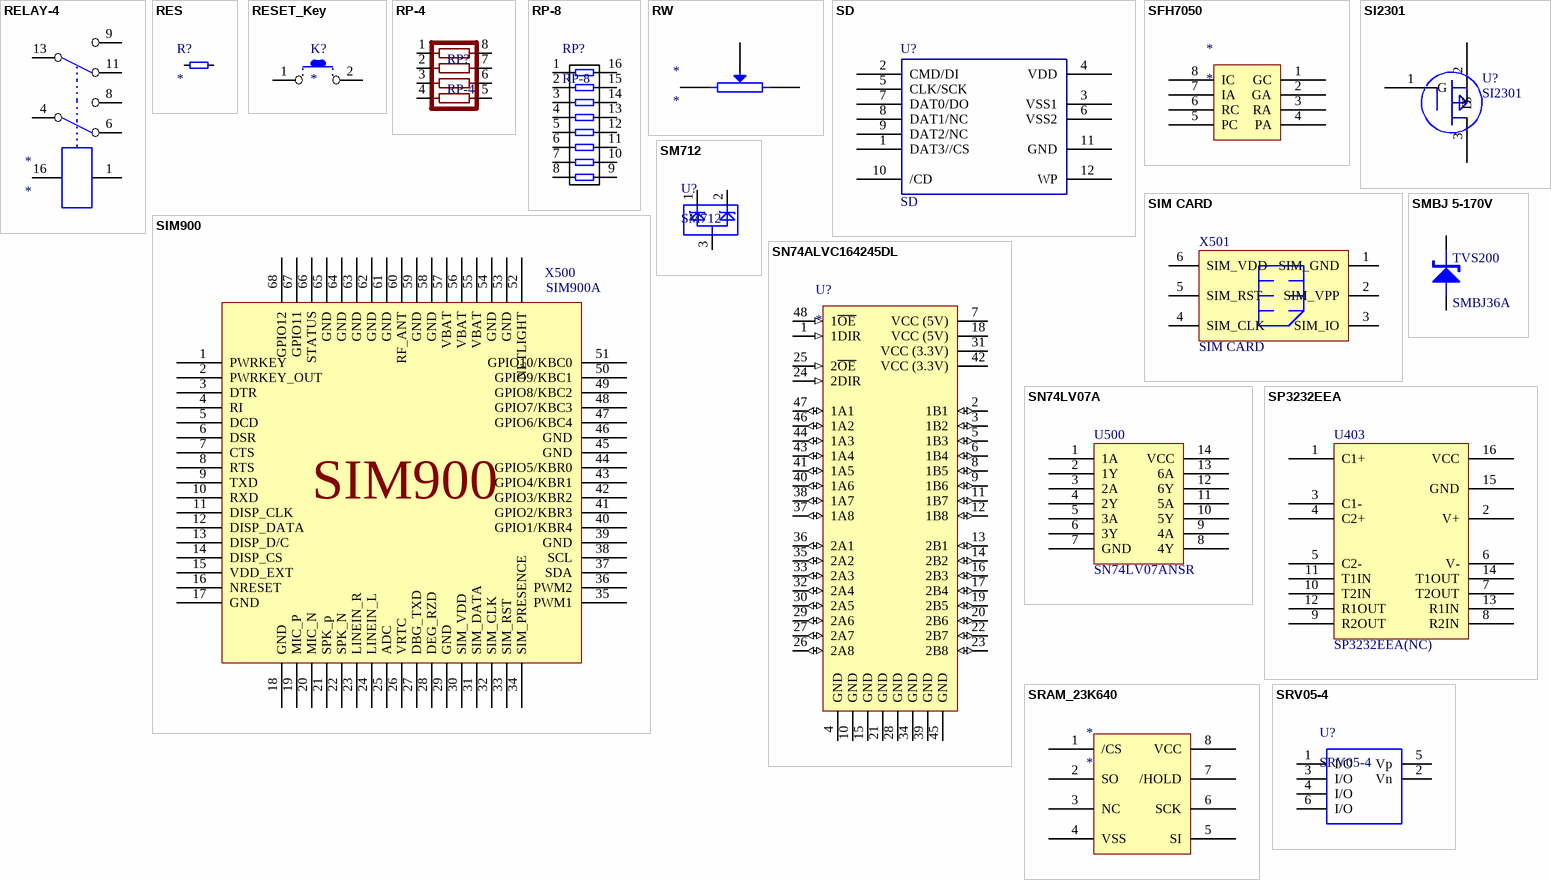
[diagram p5: symbols RELAY-4 to SRV05-4]

## RELAY-4
designator *
pins: 1, 4, 6, 8, 9, 11, 13, 16

## RES
designator R?
footprint AXIAL0.4
footprint AXIAL0.5
footprint 0805
footprint AXIAL0.7
footprint 1206
pins: 1, 2

## RESET_Key
designator K?
pins: 1, 2

## RP-4
designator RP?
pins: 1, 2, 3, 4, 5, 6, 7, 8

## RP-8
designator RP?
pins: 1, 2, 3, 4, 5, 6, 7, 8, 9, 10, 11, 12, 13, 14, 15, 16

## RW
designator *
pins: 1, 2, 3

## SD
designator U?
footprint SD-4
pins: 1 DAT3//CS, 2 CMD/DI, 3 VSS1, 4 VDD, 5 CLK/SCK, 6 VSS2, 7 DAT0/DO, 8 DAT1/NC, 9 DAT2/NC, 10 /CD, 11 GND, 12 WP

## SFH7050
designator *
pins: 1 GC, 2 GA, 3 RA, 4 PA, 5 PC, 6 RC, 7 IA, 8 IC

## SI2301
designator U?
footprint SOT23-PNP
pins: 1 G, 2 S, 3 D

## SIM900
designator X500, comment SIM900A
footprint SIM900
footprint SIM900
pins: 1 PWRKEY, 2 PWRKEY_OUT, 3 DTR, 4 RI, 5 DCD, 6 DSR, 7 CTS, 8 RTS, 9 TXD, 10 RXD, 11 DISP_CLK, 12 DISP_DATA, 13 DISP_D/C, 14 DISP_CS, 15 VDD_EXT, 16 NRESET, 17 GND, 18 GND, 19 MIC_P, 20 MIC_N, 21 SPK_p, 22 SPK_N, 23 LINEIN_R, 24 LINEIN_L, 25 ADC, 26 VRTC, 27 DBG_TXD, 28 DEG_RZD, 29 GND, 30 SIM_VDD, 31 SIM_DATA, 32 SIM_CLK, 33 SIM_RST, 34 SIM_PRESENCE, 35 PWM1, 36 PWM2, 37 SDA, 38 SCL, 39 GND, 40 GPIO1/KBR4, 41 GPIO2/KBR3, 42 GPIO3/KBR2, 43 GPIO4/KBR1, 44 GPIO5/KBR0, 45 GND, 46 GND, 47 GPIO6/KBC4, 48 GPIO7/KBC3, 49 GPIO8/KBC2, 50 GPIO9/KBC1, 51 GPIO10/KBC0, 52 NETLIGHT, 53 GND, 54 GND, 55 VBAT, 56 VBAT, 57 VBAT, 58 GND, 59 GND, 60 RF_ANT, 61 GND, 62 GND, 63 GND, 64 GND, 65 GND, 66 STATUS, 67 GPIO11, 68 GPIO12

## SIM CARD
designator X501
footprint SIMLOCK
pins: 1 SIM_GND, 2 SIM_VPP, 3 SIM_IO, 4 SIM_CLK, 5 SIM_RST, 6 SIM_VDD

## SM712
designator U?
footprint SOT23-PNP
pins: 1, 2, 3

## SMBJ 5-170V
designator TVS200, comment SMBJ36A
footprint SMB/DO-214AA
pins: A, K

## SN74ALVC164245DL
designator U?
footprint SSOP48 (SSOP; 48 Leads; Body Width 7.5 mm; Pitch 0.635 mm)
pins: 1 1DIR (in), 2 1B1 (io), 3 1B2 (io), 4 GND (power), 5 1B3 (io), 6 1B4 (io), 7 VCC (5V) (power), 8 1B5 (io), 9 1B6 (io), 10 GND (power), 11 1B7 (io), 12 1B8 (io), 13 2B1 (io), 14 2B2 (io), 15 GND (power), 16 2B3 (io), 17 2B4 (io), 18 VCC (5V) (power), 19 2B5 (io), 20 2B6 (io), 21 GND (power), 22 2B7 (io), 23 2B8 (io), 24 2DIR (in), 25 2~{OE} (in), 26 2A8 (io), 27 2A7 (io), 28 GND (power), 29 2A6 (io), 30 2A5 (io), 31 VCC (3.3V) (power), 32 2A4 (io), 33 2A3 (io), 34 GND (power), 35 2A2 (io), 36 2A1 (io), 37 1A8 (io), 38 1A7 (io), 39 GND (power), 40 1A6 (io), 41 1A5 (io), 42 VCC (3.3V) (power), 43 1A4 (io), 44 1A3 (io), 45 GND (power), 46 1A2 (io), 47 1A1 (io), 48 1~{OE} (in)

## SN74LV07A
designator U500, comment SN74LV07ANSR
footprint SOIC-14
pins: 1 1A, 2 1Y, 3 2A, 4 2Y, 5 3A, 6 3Y, 7 GND, 8 4Y, 9 4A, 10 5Y, 11 5A, 12 6Y, 13 6A, 14 VCC

## SP3232EEA
designator U403, comment SP3232EEA(NC)
footprint SSOP16
pins: 1 C1+, 2 V+, 3 C1-, 4 C2+, 5 C2-, 6 V-, 7 T2OUT, 8 R2IN, 9 R2OUT, 10 T2IN, 11 T1IN, 12 R1OUT, 13 R1IN, 14 T1OUT, 15 GND, 16 VCC

## SRAM_23K640
designator *
pins: 1 /CS, 2 SO, 3 NC, 4 VSS, 5 SI, 6 SCK, 7 /HOLD, 8 VCC

## SRV05-4
designator U?
footprint SOT23-6L
pins: 1 I/O, 2 Vn, 3 I/O, 4 I/O, 5 Vp, 6 I/O

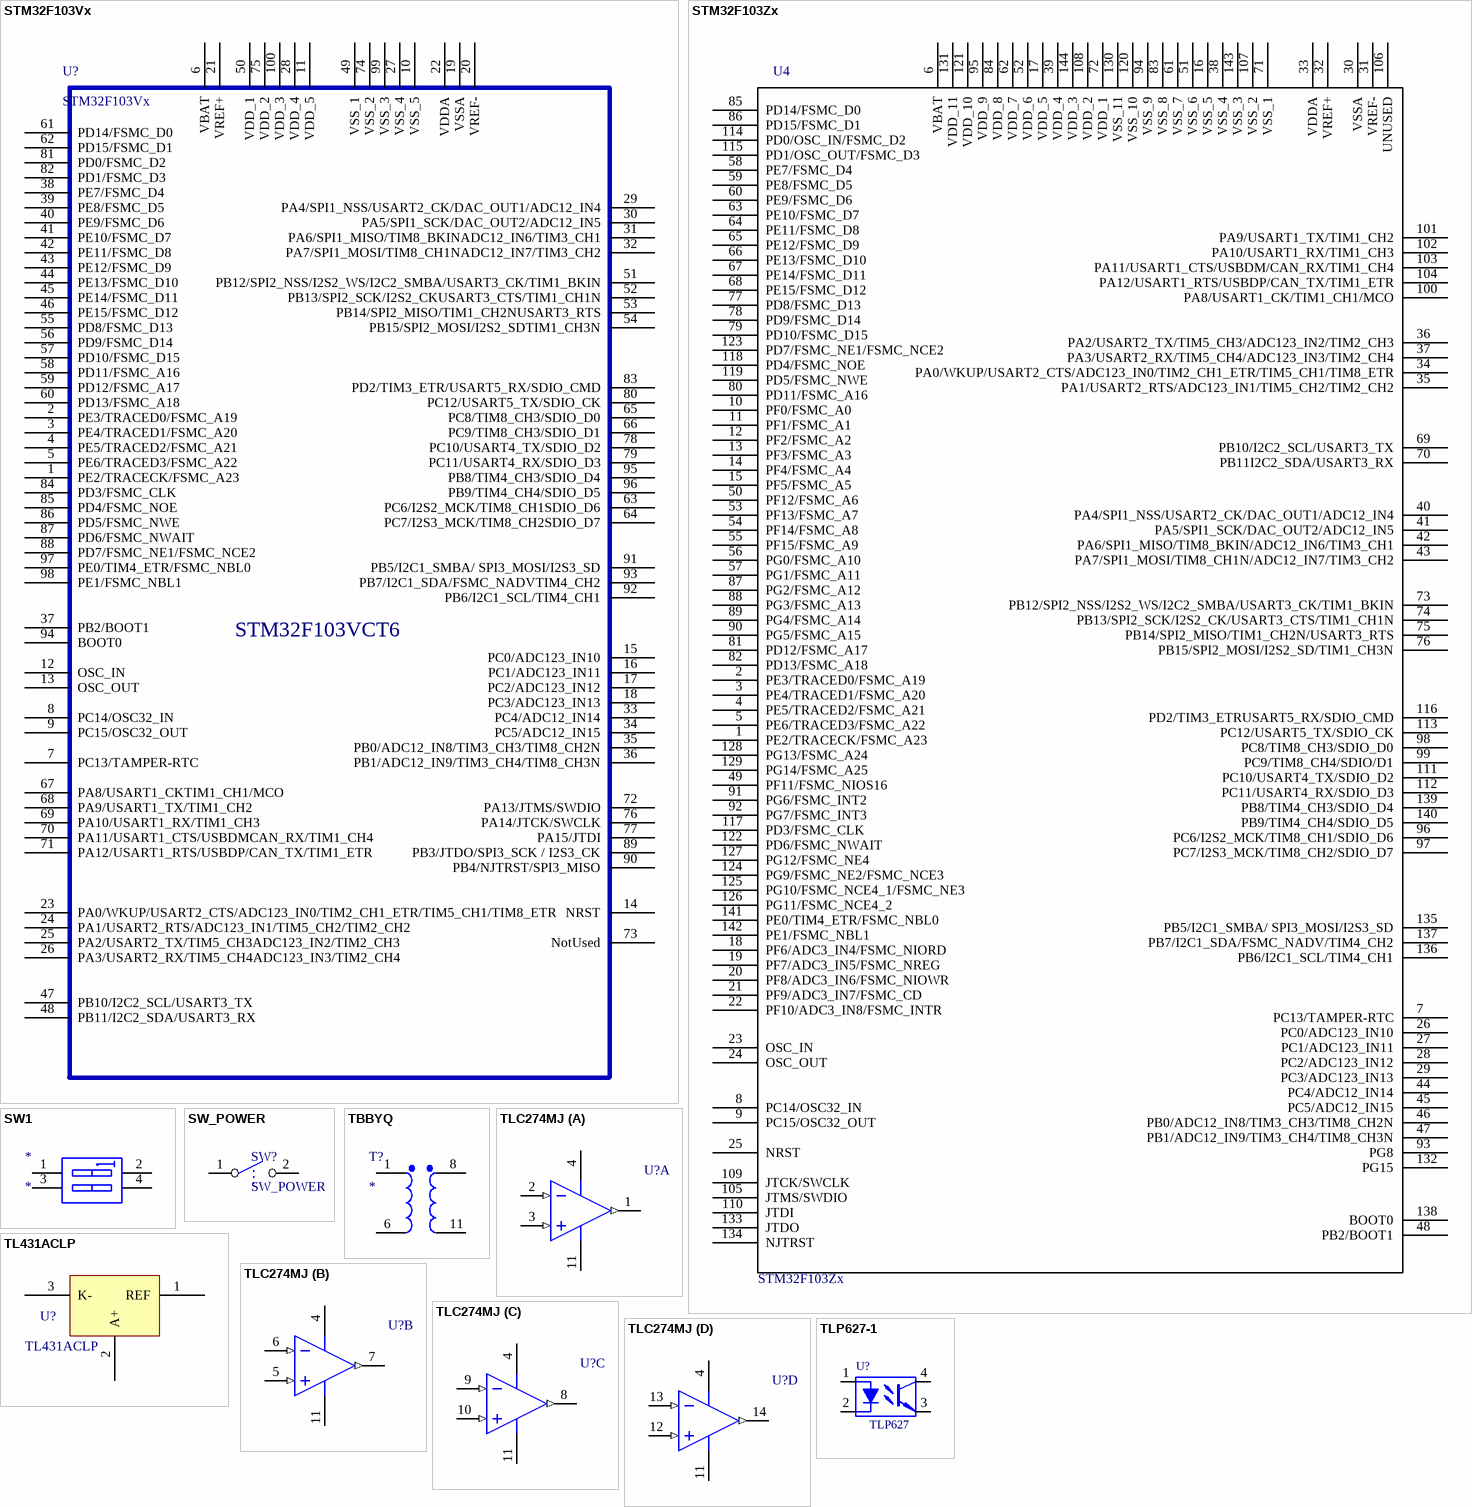
[diagram p6: symbols STM32F103Vx to TLP627-1]

## STM32F103Vx
designator U?
footprint LQFP100_M
pins: 1 PE2/TRACECK/FSMC_A23, 2 PE3/TRACED0/FSMC_A19, 3 PE4/TRACED1/FSMC_A20, 4 PE5/TRACED2/FSMC_A21, 5 PE6/TRACED3/FSMC_A22, 6 VBAT, 7 PC13/TAMPER-RTC, 8 PC14/OSC32_IN, 9 PC15/OSC32_OUT, 10 VSS_5, 11 VDD_5, 12 OSC_IN, 13 OSC_OUT, 14 NRST, 15 PC0/ADC123_IN10, 16 PC1/ADC123_IN11, 17 PC2/ADC123_IN12, 18 PC3/ADC123_IN13, 19 VSSA, 20 VREF-, 21 VREF+, 22 VDDA, 23 PA0/WKUP/USART2_CTS/ADC123_IN0/TIM2_CH1_ETR/TIM5_CH1/TIM8_ETR, 24 PA1/USART2_RTS/ADC123_IN1/TIM5_CH2/TIM2_CH2, 25 PA2/USART2_TX/TIM5_CH3ADC123_IN2/TIM2_CH3, 26 PA3/USART2_RX/TIM5_CH4ADC123_IN3/TIM2_CH4, 27 VSS_4, 28 VDD_4, 29 PA4/SPI1_NSS/USART2_CK/DAC_OUT1/ADC12_IN4, 30 PA5/SPI1_SCK/DAC_OUT2/ADC12_IN5, 31 PA6/SPI1_MISO/TIM8_BKINADC12_IN6/TIM3_CH1, 32 PA7/SPI1_MOSI/TIM8_CH1NADC12_IN7/TIM3_CH2, 33 PC4/ADC12_IN14, 34 PC5/ADC12_IN15, 35 PB0/ADC12_IN8/TIM3_CH3/TIM8_CH2N, 36 PB1/ADC12_IN9/TIM3_CH4/TIM8_CH3N, 37 PB2/BOOT1, 38 PE7/FSMC_D4, 39 PE8/FSMC_D5, 40 PE9/FSMC_D6, 41 PE10/FSMC_D7, 42 PE11/FSMC_D8, 43 PE12/FSMC_D9, 44 PE13/FSMC_D10, 45 PE14/FSMC_D11, 46 PE15/FSMC_D12, 47 PB10/I2C2_SCL/USART3_TX, 48 PB11/I2C2_SDA/USART3_RX, 49 VSS_1, 50 VDD_1, 51 PB12/SPI2_NSS/I2S2_WS/I2C2_SMBA/USART3_CK/TIM1_BKIN, 52 PB13/SPI2_SCK/I2S2_CKUSART3_CTS/TIM1_CH1N, 53 PB14/SPI2_MISO/TIM1_CH2NUSART3_RTS, 54 PB15/SPI2_MOSI/I2S2_SDTIM1_CH3N, 55 PD8/FSMC_D13, 56 PD9/FSMC_D14, 57 PD10/FSMC_D15, 58 PD11/FSMC_A16, 59 PD12/FSMC_A17, 60 PD13/FSMC_A18, 61 PD14/FSMC_D0, 62 PD15/FSMC_D1, 63 PC6/I2S2_MCK/TIM8_CH1SDIO_D6, 64 PC7/I2S3_MCK/TIM8_CH2SDIO_D7, 65 PC8/TIM8_CH3/SDIO_D0, 66 PC9/TIM8_CH3/SDIO_D1, 67 PA8/USART1_CKTIM1_CH1/MCO, 68 PA9/USART1_TX/TIM1_CH2, 69 PA10/USART1_RX/TIM1_CH3, 70 PA11/USART1_CTS/USBDMCAN_RX/TIM1_CH4, 71 PA12/USART1_RTS/USBDP/CAN_TX/TIM1_ETR, 72 PA13/JTMS/SWDIO, 73 NotUsed, 74 VSS_2, 75 VDD_2, 76 PA14/JTCK/SWCLK, 77 PA15/JTDI, 78 PC10/USART4_TX/SDIO_D2, 79 PC11/USART4_RX/SDIO_D3, 80 PC12/USART5_TX/SDIO_CK, 81 PD0/FSMC_D2, 82 PD1/FSMC_D3, 83 PD2/TIM3_ETR/USART5_RX/SDIO_CMD, 84 PD3/FSMC_CLK, 85 PD4/FSMC_NOE, 86 PD5/FSMC_NWE, 87 PD6/FSMC_NWAIT, 88 PD7/FSMC_NE1/FSMC_NCE2, 89 PB3/JTDO/SPI3_SCK / I2S3_CK, 90 PB4/NJTRST/SPI3_MISO, 91 PB5/I2C1_SMBA/ SPI3_MOSI/I2S3_SD, 92 PB6/I2C1_SCL/TIM4_CH1, 93 PB7/I2C1_SDA/FSMC_NADVTIM4_CH2, 94 BOOT0, 95 PB8/TIM4_CH3/SDIO_D4, 96 PB9/TIM4_CH4/SDIO_D5, 97 PE0/TIM4_ETR/FSMC_NBL0, 98 PE1/FSMC_NBL1, 99 VSS_3, 100 VDD_3
text: STM32F103VCT6

## STM32F103Zx
designator U4
footprint LQFP144_M
pins: 1 PE2/TRACECK/FSMC_A23, 2 PE3/TRACED0/FSMC_A19, 3 PE4/TRACED1/FSMC_A20, 4 PE5/TRACED2/FSMC_A21, 5 PE6/TRACED3/FSMC_A22, 6 VBAT, 7 PC13/TAMPER-RTC, 8 PC14/OSC32_IN, 9 PC15/OSC32_OUT, 10 PF0/FSMC_A0, 11 PF1/FSMC_A1, 12 PF2/FSMC_A2, 13 PF3/FSMC_A3, 14 PF4/FSMC_A4, 15 PF5/FSMC_A5, 16 VSS_5, 17 VDD_5, 18 PF6/ADC3_IN4/FSMC_NIORD, 19 PF7/ADC3_IN5/FSMC_NREG, 20 PF8/ADC3_IN6/FSMC_NIOWR, 21 PF9/ADC3_IN7/FSMC_CD, 22 PF10/ADC3_IN8/FSMC_INTR, 23 OSC_IN, 24 OSC_OUT, 25 NRST, 26 PC0/ADC123_IN10, 27 PC1/ADC123_IN11, 28 PC2/ADC123_IN12, 29 PC3/ADC123_IN13, 30 VSSA, 31 VREF-, 32 VREF+, 33 VDDA, 34 PA0/WKUP/USART2_CTS/ADC123_IN0/TIM2_CH1_ETR/TIM5_CH1/TIM8_ETR, 35 PA1/USART2_RTS/ADC123_IN1/TIM5_CH2/TIM2_CH2, 36 PA2/USART2_TX/TIM5_CH3/ADC123_IN2/TIM2_CH3, 37 PA3/USART2_RX/TIM5_CH4/ADC123_IN3/TIM2_CH4, 38 VSS_4, 39 VDD_4, 40 PA4/SPI1_NSS/USART2_CK/DAC_OUT1/ADC12_IN4, 41 PA5/SPI1_SCK/DAC_OUT2/ADC12_IN5, 42 PA6/SPI1_MISO/TIM8_BKIN/ADC12_IN6/TIM3_CH1, 43 PA7/SPI1_MOSI/TIM8_CH1N/ADC12_IN7/TIM3_CH2, 44 PC4/ADC12_IN14, 45 PC5/ADC12_IN15, 46 PB0/ADC12_IN8/TIM3_CH3/TIM8_CH2N, 47 PB1/ADC12_IN9/TIM3_CH4/TIM8_CH3N, 48 PB2/BOOT1, 49 PF11/FSMC_NIOS16, 50 PF12/FSMC_A6, 51 VSS_6, 52 VDD_6, 53 PF13/FSMC_A7, 54 PF14/FSMC_A8, 55 PF15/FSMC_A9, 56 PG0/FSMC_A10, 57 PG1/FSMC_A11, 58 PE7/FSMC_D4, 59 PE8/FSMC_D5, 60 PE9/FSMC_D6, 61 VSS_7, 62 VDD_7, 63 PE10/FSMC_D7, 64 PE11/FSMC_D8, 65 PE12/FSMC_D9, 66 PE13/FSMC_D10, 67 PE14/FSMC_D11, 68 PE15/FSMC_D12, 69 PB10/I2C2_SCL/USART3_TX, 70 PB11I2C2_SDA/USART3_RX, 71 VSS_1, 72 VDD_1, 73 PB12/SPI2_NSS/I2S2_WS/I2C2_SMBA/USART3_CK/TIM1_BKIN, 74 PB13/SPI2_SCK/I2S2_CK/USART3_CTS/TIM1_CH1N, 75 PB14/SPI2_MISO/TIM1_CH2N/USART3_RTS, 76 PB15/SPI2_MOSI/I2S2_SD/TIM1_CH3N, 77 PD8/FSMC_D13, 78 PD9/FSMC_D14, 79 PD10/FSMC_D15, 80 PD11/FSMC_A16, 81 PD12/FSMC_A17, 82 PD13/FSMC_A18, 83 VSS_8, 84 VDD_8, 85 PD14/FSMC_D0, 86 PD15/FSMC_D1, 87 PG2/FSMC_A12, 88 PG3/FSMC_A13, 89 PG4/FSMC_A14, 90 PG5/FSMC_A15, 91 PG6/FSMC_INT2, 92 PG7/FSMC_INT3, 93 PG8, 94 VSS_9, 95 VDD_9, 96 PC6/I2S2_MCK/TIM8_CH1/SDIO_D6, 97 PC7/I2S3_MCK/TIM8_CH2/SDIO_D7, 98 PC8/TIM8_CH3/SDIO_D0, 99 PC9/TIM8_CH4/SDIO/D1, 100 PA8/USART1_CK/TIM1_CH1/MCO, 101 PA9/USART1_TX/TIM1_CH2, 102 PA10/USART1_RX/TIM1_CH3, 103 PA11/USART1_CTS/USBDM/CAN_RX/TIM1_CH4, 104 PA12/USART1_RTS/USBDP/CAN_TX/TIM1_ETR, 105 JTMS/SWDIO, 106 UNUSED, 107 VSS_2, 108 VDD_2, 109 JTCK/SWCLK, 110 JTDI, 111 PC10/USART4_TX/SDIO_D2, 112 PC11/USART4_RX/SDIO_D3, 113 PC12/USART5_TX/SDIO_CK, 114 PD0/OSC_IN/FSMC_D2, 115 PD1/OSC_OUT/FSMC_D3, 116 PD2/TIM3_ETRUSART5_RX/SDIO_CMD, 117 PD3/FSMC_CLK, 118 PD4/FSMC_NOE, 119 PD5/FSMC_NWE, 120 VSS_10, 121 VDD_10, 122 PD6/FSMC_NWAIT, 123 PD7/FSMC_NE1/FSMC_NCE2, 124 PG9/FSMC_NE2/FSMC_NCE3, 125 PG10/FSMC_NCE4_1/FSMC_NE3, 126 PG11/FSMC_NCE4_2, 127 PG12/FSMC_NE4, 128 PG13/FSMC_A24, 129 PG14/FSMC_A25, 130 VSS_11, 131 VDD_11, 132 PG15, 133 JTDO, 134 NJTRST, 135 PB5/I2C1_SMBA/ SPI3_MOSI/I2S3_SD, 136 PB6/I2C1_SCL/TIM4_CH1, 137 PB7/I2C1_SDA/FSMC_NADV/TIM4_CH2, 138 BOOT0, 139 PB8/TIM4_CH3/SDIO_D4, 140 PB9/TIM4_CH4/SDIO_D5, 141 PE0/TIM4_ETR/FSMC_NBL0, 142 PE1/FSMC_NBL1, 143 VSS_3, 144 VDD_3

## SW1
designator *
pins: 1 A1, 2 A2, 3 B2, 4 B1

## SW_POWER
designator SW?
pins: 1, 2

## TBBYQ
designator T?
footprint TBBYQ
pins: 1, 6, 8, 11

## TL431ACLP
designator U?
footprint TO-92
pins: 1 REF, 2 A+, 3 K-

## TLC274MJ
designator U?, comment TLC2264AIPW  (value not drawn)
LinCMOS Precision Quad Operational Amplifier; Published: 15-Apr-2002; DatasheetDocument: Aug-1988; PackageDocument: Jun-1999; PackageReference: J014; Publisher: Altium Limited
footprint J014 (DIP; 14 Leads; Row Spacing 7.62 mm; Pitch 2.54 mm)
footprint TSSOP14
pins on every part: 4 V+ (power), 11 V- (power)
part A pins: 1 OUT (out), 2 IN- (in), 3 IN+ (in)
part B pins: 5 IN+ (in), 6 IN- (in), 7 OUT (out)
part C pins: 8 OUT (out), 9 IN- (in), 10 IN+ (in)
part D pins: 12 IN+ (in), 13 IN- (in), 14 OUT (out)

## TLP627-1
designator U?, comment TLP627
footprint TLP627-1
pins: 1, 2, 3, 4

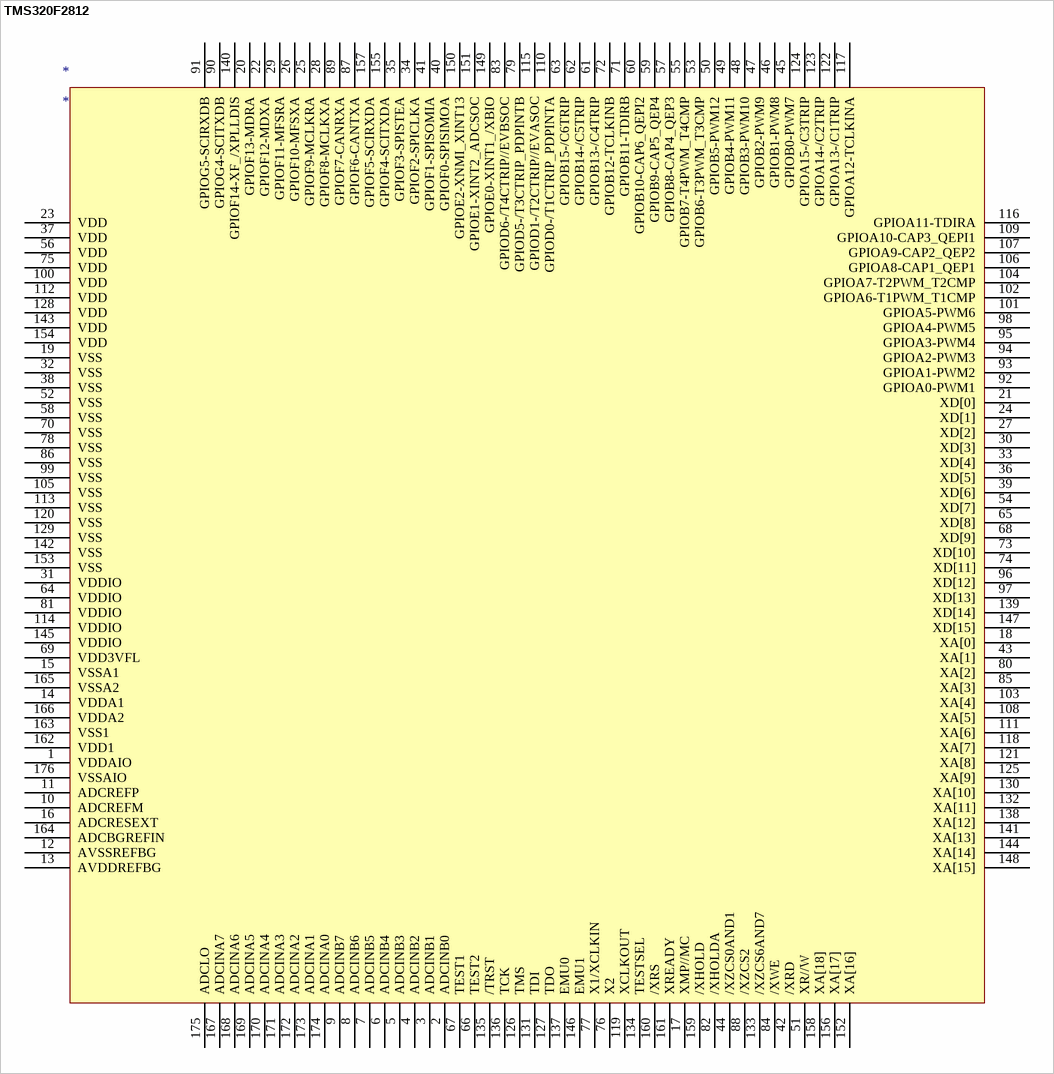
[diagram p7: symbol TMS320F2812]

## TMS320F2812
designator *
pins: 1 VDDAIO, 2 ADCINB0, 3 ADCINB1, 4 ADCINB2, 5 ADCINB3, 6 ADCINB4, 7 ADCINB5, 8 ADCINB6, 9 ADCINB7, 10 ADCREFM, 11 ADCREFP, 12 AVSSREFBG, 13 AVDDREFBG, 14 VDDA1, 15 VSSA1, 16 ADCRESEXT, 17 XMP//MC, 18 XA[0], 19 VSS, 20 GPIOF13-MDRA, 21 XD[0], 22 GPIOF12-MDXA, 23 VDD, 24 XD[1], 25 GPIOF9-MCLKRA, 26 GPIOF10-MFSXA, 27 XD[2], 28 GPIOF8-MCLKXA, 29 GPIOF11-MFSRA, 30 XD[3], 31 VDDIO, 32 VSS, 33 XD[4], 34 GPIOF2-SPICLKA, 35 GPIOF3-SPISTEA, 36 XD[5], 37 VDD, 38 VSS, 39 XD[6], 40 GPIOF0-SPISIMOA, 41 GPIOF1-SPISOMIA, 42 /XRD, 43 XA[1], 44 /XZCS0AND1, 45 GPIOB0-PWM7, 46 GPIOB1-PWM8, 47 GPIOB2-PWM9, 48 GPIOB3-PWM10, 49 GPIOB4-PWM11, 50 GPIOB5-PWM12, 51 XR//W, 52 VSS, 53 GPIOB6-T3PWM_T3CMP, 54 XD[7], 55 GPIOB7-T4PWM_T4CMP, 56 VDD, 57 GPIOB8-CAP4_QEP3, 58 VSS, 59 GPIOB9-CAP5_QEP4, 60 GPIOB10-CAP6_QEPI2, 61 GPIOB13-/C4TRIP, 62 GPIOB14-/C5TRIP, 63 GPIOB15-/C6TRIP, 64 VDDIO, 65 XD[8], 66 TEST2, 67 TEST1, 68 XD[9], 69 VDD3VFL, 70 VSS, 71 GPIOB11-TDIRB, 72 GPIOB12-TCLKINB, 73 XD[10], 74 XD[11], 75 VDD, 76 X2, 77 X1/XCLKIN, 78 VSS, 79 GPIOD5-/T3CTRIP_PDPINTB, 80 XA[2], 81 VDDIO, 82 /XHOLDA, 83 GPIOD6-/T4CTRIP//EVBSOC, 84 /XWE, 85 XA[3], 86 VSS, 87 GPIOF6-CANTXA, 88 /XZCS2, 89 GPIOF7-CANRXA, 90 GPIOG4-SCITXDB, 91 GPIOG5-SCIRXDB, 92 GPIOA0-PWM1, 93 GPIOA1-PWM2, 94 GPIOA2-PWM3, 95 GPIOA3-PWM4, 96 XD[12], 97 XD[13], 98 GPIOA4-PWM5, 99 VSS, 100 VDD, 101 GPIOA5-PWM6, 102 GPIOA6-T1PWM_T1CMP, 103 XA[4], 104 GPIOA7-T2PWM_T2CMP, 105 VSS, 106 GPIOA8-CAP1_QEP1, 107 GPIOA9-CAP2_QEP2, 108 XA[5], 109 GPIOA10-CAP3_QEPI1, 110 GPIOD0-/T1CTRIP_PDPINTA, 111 XA[6], 112 VDD, 113 VSS, 114 VDDIO, 115 GPIOD1-/T2CTRIP//EVASOC, 116 GPIOA11-TDIRA, 117 GPIOA12-TCLKINA, 118 XA[7], 119 XCLKOUT, 120 VSS, 121 XA[8], 122 GPIOA13-/C1TRIP, 123 GPIOA14-/C2TRIP, 124 GPIOA15-/C3TRIP, 125 XA[9], 126 TMS, 127 TDO, 128 VDD, 129 VSS, 130 XA[10], 131 TDI, 132 XA[11], 133 /XZCS6AND7, 134 TESTSEL, 135 /TRST, 136 TCK, 137 EMU0, 138 XA[12], 139 XD[14], 140 GPIOF14-XF_/XPLLDIS, 141 XA[13], 142 VSS, 143 VDD, 144 XA[14], 145 VDDIO, 146 EMU1, 147 XD[15], 148 XA[15], 149 GPIOE0-XINT1_/XBIO, 150 GPIOE2-XNMI_XINT13, 151 GPIOE1-XINT2_ADCSOC, 152 XA[16], 153 VSS, 154 VDD, 155 GPIOF4-SCITXDA, 156 XA[17], 157 GPIOF5-SCIRXDA, 158 XA[18], 159 /XHOLD, 160 /XRS, 161 XREADY, 162 VDD1, 163 VSS1, 164 ADCBGREFIN, 165 VSSA2, 166 VDDA2, 167 ADCINA7, 168 ADCINA6, 169 ADCINA5, 170 ADCINA4, 171 ADCINA3, 172 ADCINA2, 173 ADCINA1, 174 ADCINA0, 175 ADCLO, 176 VSSAIO

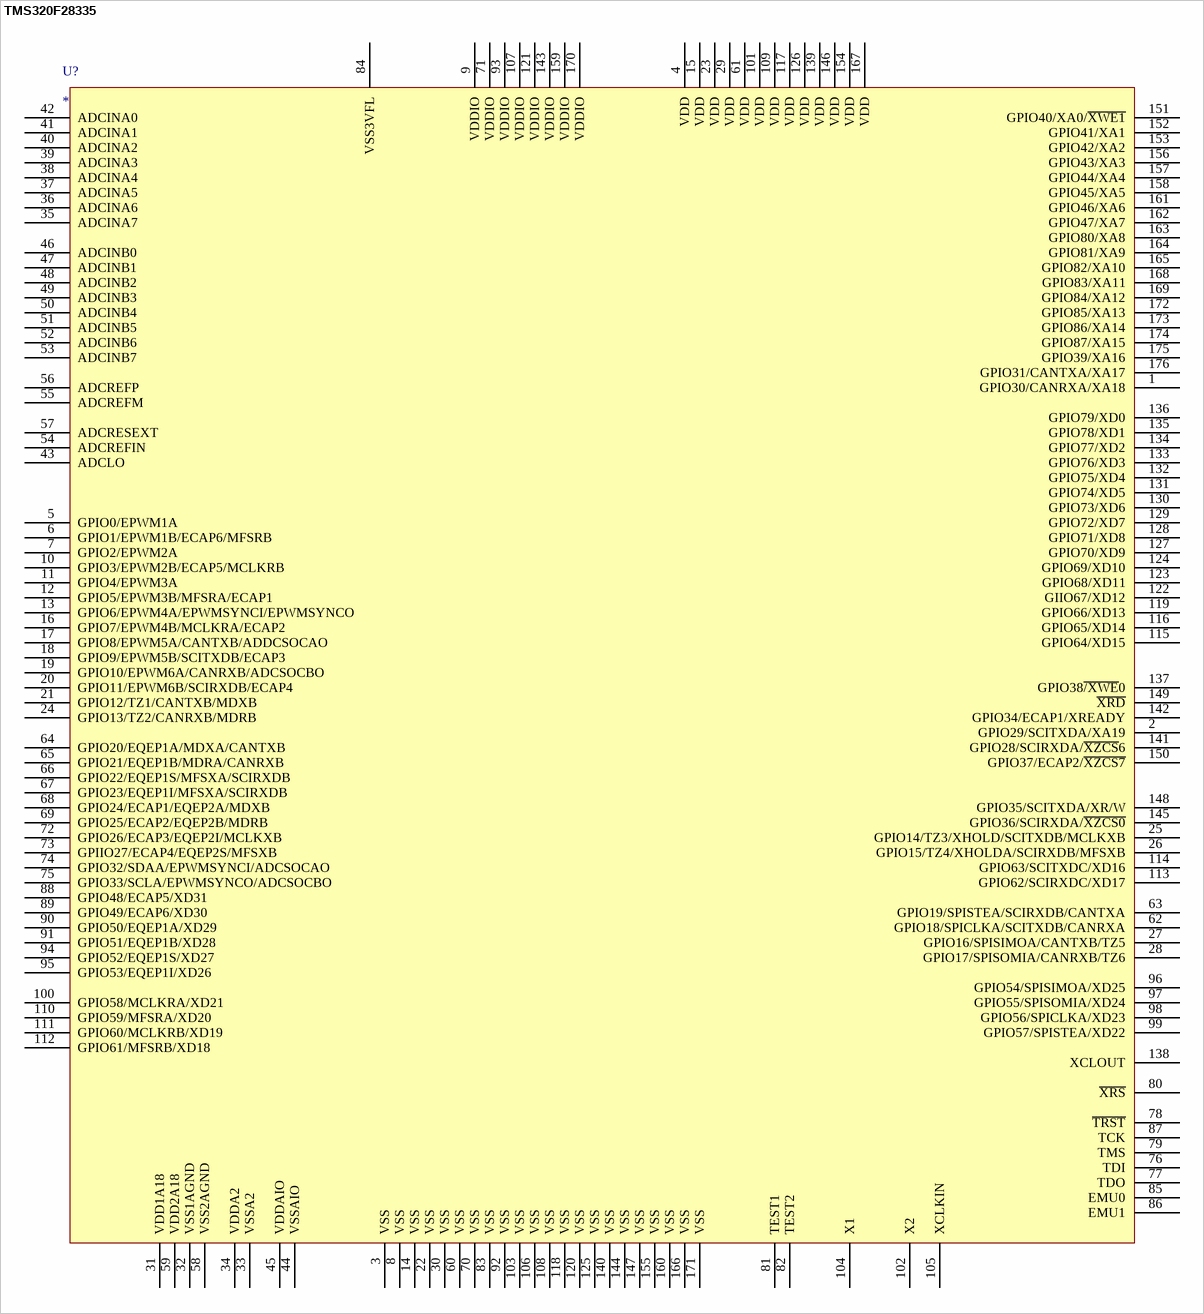
[diagram p8: symbol TMS320F28335]

## TMS320F28335
designator U?
pins: 1 GPIO30/CANRXA/XA18, 2 GPIO29/SCITXDA/XA19, 3 VSS, 4 VDD, 5 GPIO0/EPWM1A, 6 GPIO1/EPWM1B/ECAP6/MFSRB, 7 GPIO2/EPWM2A, 8 VSS, 9 VDDIO, 10 GPIO3/EPWM2B/ECAP5/MCLKRB, 11 GPIO4/EPWM3A, 12 GPIO5/EPWM3B/MFSRA/ECAP1, 13 GPIO6/EPWM4A/EPWMSYNCI/EPWMSYNCO, 14 VSS, 15 VDD, 16 GPIO7/EPWM4B/MCLKRA/ECAP2, 17 GPIO8/EPWM5A/CANTXB/ADDCSOCAO, 18 GPIO9/EPWM5B/SCITXDB/ECAP3, 19 GPIO10/EPWM6A/CANRXB/ADCSOCBO, 20 GPIO11/EPWM6B/SCIRXDB/ECAP4, 21 GPIO12/TZ1/CANTXB/MDXB, 22 VSS, 23 VDD, 24 GPIO13/TZ2/CANRXB/MDRB, 25 GPIO14/TZ3/XHOLD/SCITXDB/MCLKXB, 26 GPIO15/TZ4/XHOLDA/SCIRXDB/MFSXB, 27 GPIO16/SPISIMOA/CANTXB/TZ5, 28 GPIO17/SPISOMIA/CANRXB/TZ6, 29 VDD, 30 VSS, 31 VDD1A18, 32 VSS1AGND, 33 VSSA2, 34 VDDA2, 35 ADCINA7, 36 ADCINA6, 37 ADCINA5, 38 ADCINA4, 39 ADCINA3, 40 ADCINA2, 41 ADCINA1, 42 ADCINA0, 43 ADCLO, 44 VSSAIO, 45 VDDAIO, 46 ADCINB0, 47 ADCINB1, 48 ADCINB2, 49 ADCINB3, 50 ADCINB4, 51 ADCINB5, 52 ADCINB6, 53 ADCINB7, 54 ADCREFIN, 55 ADCREFM, 56 ADCREFP, 57 ADCRESEXT, 58 VSS2AGND, 59 VDD2A18, 60 VSS, 61 VDD, 62 GPIO18/SPICLKA/SCITXDB/CANRXA, 63 GPIO19/SPISTEA/SCIRXDB/CANTXA, 64 GPIO20/EQEP1A/MDXA/CANTXB, 65 GPIO21/EQEP1B/MDRA/CANRXB, 66 GPIO22/EQEP1S/MFSXA/SCIRXDB, 67 GPIO23/EQEP1I/MFSXA/SCIRXDB, 68 GPIO24/ECAP1/EQEP2A/MDXB, 69 GPIO25/ECAP2/EQEP2B/MDRB, 70 VSS, 71 VDDIO, 72 GPIO26/ECAP3/EQEP2I/MCLKXB, 73 GPIIO27/ECAP4/EQEP2S/MFSXB, 74 GPIO32/SDAA/EPWMSYNCI/ADCSOCAO, 75 GPIO33/SCLA/EPWMSYNCO/ADCSOCBO, 76 TDI, 77 TDO, 78 ~{TRST}, 79 TMS, 80 ~{XRS}, 81 TEST1, 82 TEST2, 83 VSS, 84 VSS3VFL, 85 EMU0, 86 EMU1, 87 TCK, 88 GPIO48/ECAP5/XD31, 89 GPIO49/ECAP6/XD30, 90 GPIO50/EQEP1A/XD29, 91 GPIO51/EQEP1B/XD28, 92 VSS, 93 VDDIO, 94 GPIO52/EQEP1S/XD27, 95 GPIO53/EQEP1I/XD26, 96 GPIO54/SPISIMOA/XD25, 97 GPIO55/SPISOMIA/XD24, 98 GPIO56/SPICLKA/XD23, 99 GPIO57/SPISTEA/XD22, 100 GPIO58/MCLKRA/XD21, 101 VDD, 102 X2, 103 VSS, 104 X1, 105 XCLKIN, 106 VSS, 107 VDDIO, 108 VSS, 109 VDD, 110 GPIO59/MFSRA/XD20, 111 GPIO60/MCLKRB/XD19, 112 GPIO61/MFSRB/XD18, 113 GPIO62/SCIRXDC/XD17, 114 GPIO63/SCITXDC/XD16, 115 GPIO64/XD15, 116 GPIO65/XD14, 117 VDD, 118 VSS, 119 GPIO66/XD13, 120 VSS, 121 VDDIO, 122 GIIO67/XD12, 123 GPIO68/XD11, 124 GPIO69/XD10, 125 VSS, 126 VDD, 127 GPIO70/XD9, 128 GPIO71/XD8, 129 GPIO72/XD7, 130 GPIO73/XD6, 131 GPIO74/XD5, 132 GPIO75/XD4, 133 GPIO76/XD3, 134 GPIO77/XD2, 135 GPIO78/XD1, 136 GPIO79/XD0, 137 GPIO38~{/XWE}0, 138 XCLOUT, 139 VDD, 140 VSS, 141 GPIO28/SCIRXDA/~{XZCS}6, 142 GPIO34/ECAP1/XREADY, 143 VDDIO, 144 VSS, 145 GPIO36/SCIRXDA/~{XZCS0}, 146 VDD, 147 VSS, 148 GPIO35/SCITXDA/XR/W, 149 ~{XRD}, 150 GPIO37/ECAP2/~{XZCS7}, 151 GPIO40/XA0/~{XWE1}, 152 GPIO41/XA1, 153 GPIO42/XA2, 154 VDD, 155 VSS, 156 GPIO43/XA3, 157 GPIO44/XA4, 158 GPIO45/XA5, 159 VDDIO, 160 VSS, 161 GPIO46/XA6, 162 GPIO47/XA7, 163 GPIO80/XA8, 164 GPIO81/XA9, 165 GPIO82/XA10, 166 VSS, 167 VDD, 168 GPIO83/XA11, 169 GPIO84/XA12, 170 VDDIO, 171 VSS, 172 GPIO85/XA13, 173 GPIO86/XA14, 174 GPIO87/XA15, 175 GPIO39/XA16, 176 GPIO31/CANTXA/XA17

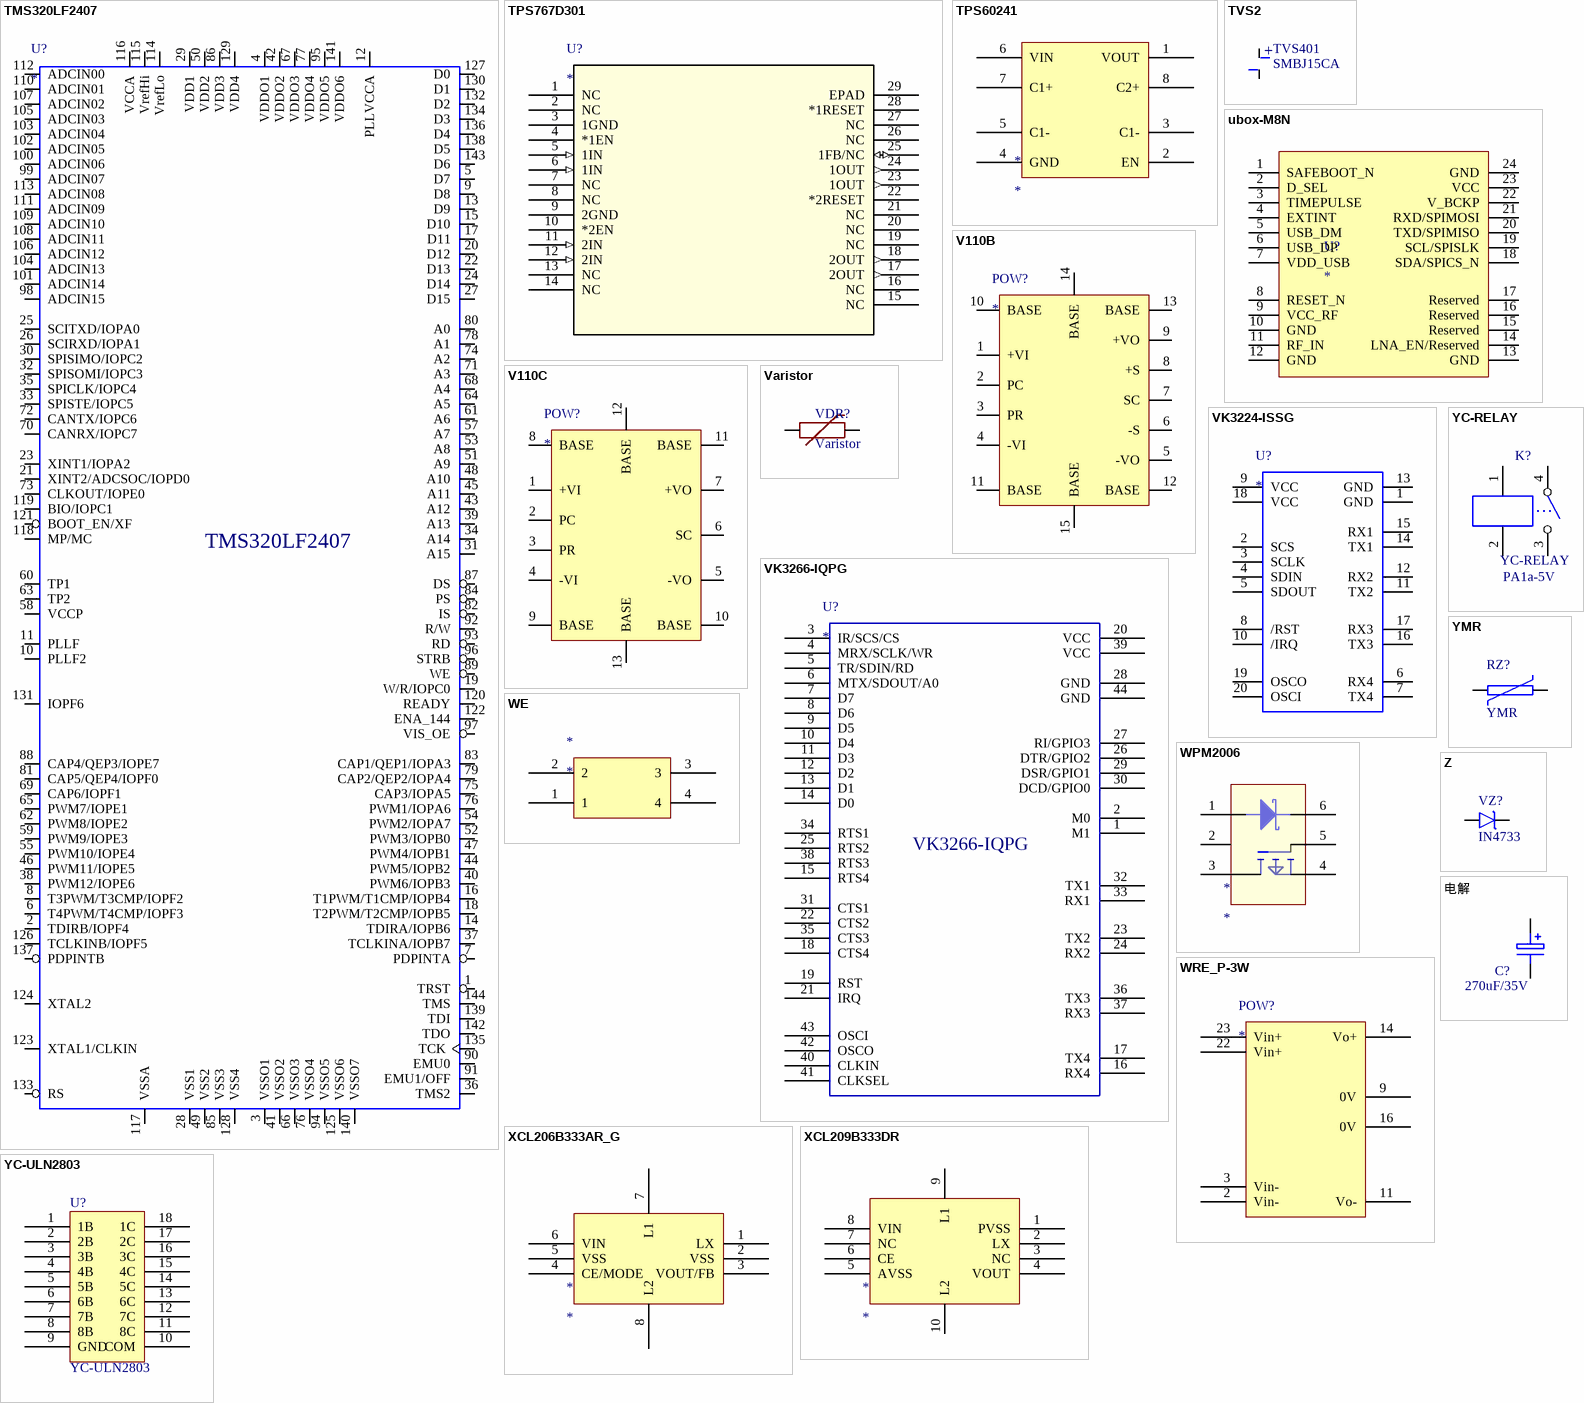
[diagram p9: symbols TMS320LF2407 to 电解]

## TMS320LF2407
designator U?
footprint TQ144
pins: 1 TRST, 2 TDIRB/IOPF4, 3 VSSO1, 4 VDDO1, 5 D7, 6 T4PWM/T4CMP/IOPF3, 7 PDPINTA, 8 T3PWM/T3CMP/IOPF2, 9 D8, 10 PLLF2, 11 PLLF, 12 PLLVCCA, 13 D9, 14 TDIRA/IOPB6, 15 D10, 16 T1PWM/T1CMP/IOPB4, 17 D11, 18 T2PWM/T2CMP/IOPB5, 19 W/R/IOPC0, 20 D12, 21 XINT2/ADCSOC/IOPD0, 22 D13, 23 XINT1/IOPA2, 24 D14, 25 SCITXD/IOPA0, 26 SCIRXD/IOPA1, 27 D15, 28 VSS1, 29 VDD1, 30 SPISIMO/IOPC2, 31 A15, 32 SPISOMI/IOPC3, 33 SPISTE/IOPC5, 34 A14, 35 SPICLK/IOPC4, 36 TMS2, 37 TCLKINA/IOPB7, 38 PWM12/IOPE6, 39 A13, 40 PWM6/IOPB3, 41 VSSO2, 42 VDDO2, 43 A12, 44 PWM5/IOPB2, 45 A11, 46 PWM11/IOPE5, 47 PWM4/IOPB1, 48 A10, 49 VSS2, 50 VDD2, 51 A9, 52 PWM3/IOPB0, 53 A8, 54 PWM2/IOPA7, 55 PWM10/IOPE4, 57 A7, 58 VCCP, 59 PWM9/IOPE3, 60 TP1, 61 A6, 62 PWM8/IOPE2, 63 TP2, 64 A5, 65 PWM7/IOPE1, 66 VSSO3, 67 VDDO3, 68 A4, 69 CAP6/IOPF1, 70 CANRX/IOPC7, 71 A3, 72 CANTX/IOPC6, 73 CLKOUT/IOPE0, 74 A2, 75 CAP3/IOPA5, 76 PWM1/IOPA6, 76 VSSO4, 77 VDDO4, 78 A1, 79 CAP2/QEP2/IOPA4, 80 A0, 81 CAP5/QEP4/IOPF0, 82 IS, 83 CAP1/QEP1/IOPA3, 84 PS, 85 VSS3, 86 VDD3, 87 DS, 88 CAP4/QEP3/IOPE7, 89 WE, 90 EMU0, 91 EMU1/OFF, 92 R/W, 93 RD, 94 VSSO5, 95 VDDO5, 96 STRB, 97 VIS_OE, 98 ADCIN15, 99 ADCIN07, 100 ADCIN06, 101 ADCIN14, 102 ADCIN05, 103 ADCIN04, 104 ADCIN13, 105 ADCIN03, 106 ADCIN12, 107 ADCIN02, 108 ADCIN11, 109 ADCIN10, 110 ADCIN01, 111 ADCIN09, 112 ADCIN00, 113 ADCIN08, 114 VrefLo, 115 VrefHi, 116 VCCA, 117 VSSA, 118 MP/MC, 119 BIO/IOPC1, 120 READY, 121 BOOT_EN/XF, 122 ENA_144, 123 XTAL1/CLKIN, 124 XTAL2, 125 VSSO6, 126 TCLKINB/IOPF5, 127 D0, 128 VSS4, 129 VDD4, 130 D1, 131 IOPF6, 132 D2, 133 RS, 134 D3, 135 TCK, 136 D4, 137 PDPINTB, 138 D5, 139 TDI, 140 VSSO7, 141 VDDO6, 142 TDO, 143 D6, 144 TMS

## TPS767D301
designator U?
pins: 1 NC, 2 NC, 3 1GND (power), 4 *1EN, 5 1IN (in), 6 1IN (in), 7 NC, 8 NC, 9 2GND (power), 10 *2EN, 11 2IN (in), 12 2IN (in), 13 NC, 14 NC, 15 NC, 16 NC, 17 2OUT (out), 18 2OUT (out), 19 NC, 20 NC, 21 NC, 22 *2RESET, 23 1OUT (out), 24 1OUT (out), 25 1FB/NC (io), 26 NC, 27 NC, 28 *1RESET, 29 EPAD

## TPS60241
designator *
pins: 1 VOUT, 2 EN, 3 C1-, 4 GND, 5 C1-, 6 VIN, 7 C1+, 8 C2+

## TVS2
designator TVS401, comment SMBJ15CA
footprint SMB/DO-214AA
pins: A, K
text: +

## ubox-M8N
designator U?
pins: 1 SAFEBOOT_N, 2 D_SEL, 3 TIMEPULSE, 4 EXTINT, 5 USB_DM, 6 USB_DP, 7 VDD_USB, 8 RESET_N, 9 VCC_RF, 10 GND, 11 RF_IN, 12 GND, 13 GND, 14 LNA_EN/Reserved, 15 Reserved, 16 Reserved, 17 Reserved, 18 SDA/SPICS_N, 19 SCL/SPISLK, 20 TXD/SPIMISO, 21 RXD/SPIMOSI, 22 V_BCKP, 23 VCC, 24 GND

## V110B
designator POW?
footprint VICOR-B
pins: 1 +VI, 2 PC, 3 PR, 4 -VI, 5 -VO, 6 -S, 7 SC, 8 +S, 9 +VO, 10 BASE, 11 BASE, 12 BASE, 13 BASE, 14 BASE, 15 BASE

## V110C
designator POW?
footprint VICOR-C
pins: 1 +VI, 2 PC, 3 PR, 4 -VI, 5 -VO, 6 SC, 7 +VO, 8 BASE, 9 BASE, 10 BASE, 11 BASE, 12 BASE, 13 BASE

## Varistor
designator VDR?
pins: 1, 2

## VK3224-ISSG
designator U?
footprint ssop20
pins: 1 GND, 2 SCS, 3 SCLK, 4 SDIN, 5 SDOUT, 6 RX4, 7 TX4, 8 /RST, 9 VCC, 10 /IRQ, 11 TX2, 12 RX2, 13 GND, 14 TX1, 15 RX1, 16 TX3, 17 RX3, 18 VCC, 19 OSCO, 20 OSCI

## VK3266-IQPG
designator U?
pins: 1 M1, 2 M0, 3 IR/SCS/CS, 4 MRX/SCLK/WR, 5 TR/SDIN/RD, 6 MTX/SDOUT/A0, 7 D7, 8 D6, 9 D5, 10 D4, 11 D3, 12 D2, 13 D1, 14 D0, 15 RTS4, 16 RX4, 17 TX4, 18 CTS4, 19 RST, 20 VCC, 21 IRQ, 22 CTS2, 23 TX2, 24 RX2, 25 RTS2, 26 DTR/GPIO2, 27 RI/GPIO3, 28 GND, 29 DSR/GPIO1, 30 DCD/GPIO0, 31 CTS1, 32 TX1, 33 RX1, 34 RTS1, 35 CTS3, 36 TX3, 37 RX3, 38 RTS3, 39 VCC, 40 CLKIN, 41 CLKSEL, 42 OSCO, 43 OSCI, 44 GND

## WE
designator *
pins: 1, 2, 3, 4

## WPM2006
designator *
pins: 1, 2 7, 3 D, 4 S, 5 G, 6 2

## WRE_P-3W
designator POW?
footprint WRE_P-3W
pins: 2 Vin-, 3 Vin-, 9 0V, 11 Vo-, 14 Vo+, 16 0V, 22 Vin+, 23 Vin+

## XCL206B333AR_G
designator *
pins: 1 LX, 2 VSS, 3 VOUT/FB, 4 CE/MODE, 5 VSS, 6 VIN, 7 L1, 8 L2

## XCL209B333DR
designator *
pins: 1 PVSS, 2 LX, 3 NC, 4 VOUT, 5 AVSS, 6 CE, 7 NC, 8 VIN, 9 L1, 10 L2

## YC-RELAY
designator K?  value PA1a-5V
footprint RELAY
pins: 1, 2, 3, 4

## YC-ULN2803
designator U?
footprint SOL18
pins: 1 1B, 2 2B, 3 3B, 4 4B, 5 5B, 6 6B, 7 7B, 8 8B, 9 GND, 10 COM, 11 8C, 12 7C, 13 6C, 14 5C, 15 4C, 16 3C, 17 2C, 18 1C

## YMR
designator RZ?
热敏电阻
footprint YMZ
pins: 1, 2

## Z
designator VZ?, comment IN4733
footprint 1206D
footprint DIODE0.4
footprint DIODE0.6
footprint DIODE0.5
pins: A, K

## 电解
designator C?, comment 270uF/35V
footprint RB9/CAP8
pins: 1, 2